# Altium schematic symbol library RD3399-20181013_Library.SchLib: 411 symbols (part 1 of 13)
Pins are listed as number, name and electrical type; pins without a type are passive.

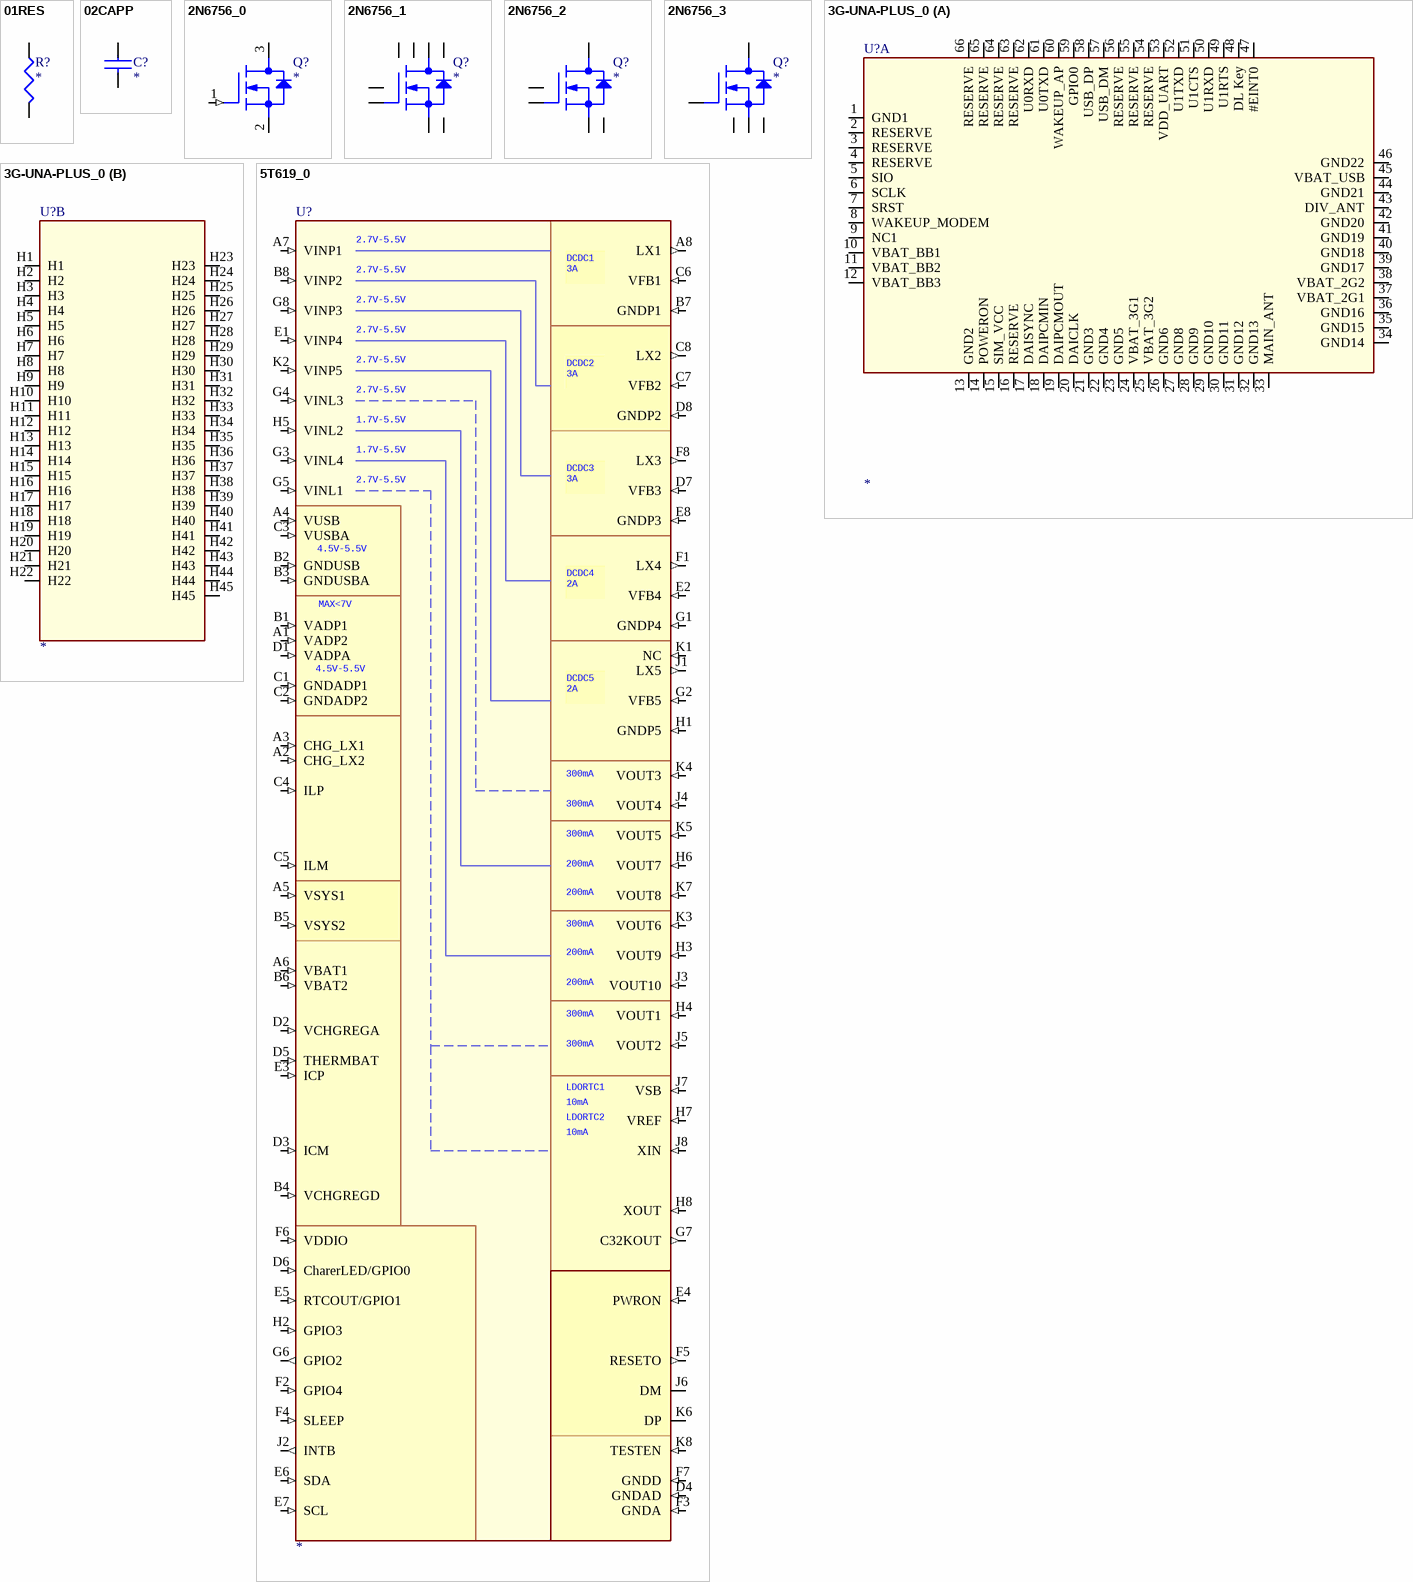
[diagram p0: symbols 01RES to 5T619_0]

## 01RES
designator R?
footprint R0603
pins: 1, 2

## 02CAPP
designator C?
footprint C0603
pins: 1, 2

## 2N6756_0
designator Q?
pins: 1 GATE (in), 2 SOURCE, 3 DRAIN

## 2N6756_1
designator Q?
pins: D1, D2, D3, D4, G1, G2, S1, S2

## 2N6756_2
designator Q?
pins: D1, G1, G2, S1, S2

## 2N6756_3
designator Q?
pins: D1, G1, G2, S1, S2

## 3G-UNA-PLUS_0
designator U?
part A pins: 1 GND1, 2 RESERVE, 3 RESERVE, 4 RESERVE, 5 SIO, 6 SCLK, 7 SRST, 8 WAKEUP_MODEM, 9 NC1, 10 VBAT_BB1, 11 VBAT_BB2, 12 VBAT_BB3, 13 GND2, 14 POWERON, 15 SIM_VCC, 16 RESERVE, 17 DAISYNC, 18 DAIPCMIN, 19 DAIPCMOUT, 20 DAICLK, 21 GND3, 22 GND4, 23 GND5, 24 VBAT_3G1, 25 VBAT_3G2, 26 GND6, 27 GND8, 28 GND9, 29 GND10, 30 GND11, 31 GND12, 32 GND13, 33 MAIN_ANT, 34 GND14, 35 GND15, 36 GND16, 37 VBAT_2G1, 38 VBAT_2G2, 39 GND17, 40 GND18, 41 GND19, 42 GND20, 43 DIV_ANT, 44 GND21, 45 VBAT_USB, 46 GND22, 47 #EINT0, 48 DL Key, 49 U1RTS, 50 U1RXD, 51 U1CTS, 52 U1TXD, 53 VDD_UART, 54 RESERVE, 55 RESERVE, 56 RESERVE, 57 USB_DM, 58 USB_DP, 59 GPIO0, 60 WAKEUP_AP, 61 U0TXD, 62 U0RXD, 63 RESERVE, 64 RESERVE, 65 RESERVE, 66 RESERVE
part B pins: H1, H2, H3, H4, H5, H6, H7, H8, H9, H10, H11, H12, H13, H14, H15, H16, H17, H18, H19, H20, H21, H22, H23, H24, H25, H26, H27, H28, H29, H30, H31, H32, H33, H34, H35, H36, H37, H38, H39, H40, H41, H42, H43, H44, H45

## 5T619_0
designator U?
pins: A1 VADP2 (in), A2 CHG_LX2 (in), A3 CHG_LX1 (in), A4 VUSB (in), A5 VSYS1 (in), A6 VBAT1 (in), A7 VINP1 (in), A8 LX1 (out), B1 VADP1 (in), B2 GNDUSB (in), B3 GNDUSBA (in), B4 VCHGREGD (in), B5 VSYS2 (in), B6 VBAT2 (in), B7 GNDP1 (in), B8 VINP2 (in), C1 GNDADP1 (in), C2 GNDADP2 (in), C3 VUSBA (in), C4 ILP (in), C5 ILM (in), C6 VFB1 (in), C7 VFB2 (in), C8 LX2 (out), D1 VADPA (in), D2 VCHGREGA (in), D3 ICM (in), D4 GNDAD (in), D5 THERMBAT (in), D6 CharerLED/GPIO0 (in), D7 VFB3 (in), D8 GNDP2 (in), E1 VINP4 (in), E2 VFB4 (in), E3 ICP (in), E4 PWRON (in), E5 RTCOUT/GPIO1 (in), E6 SDA (in), E7 SCL (in), E8 GNDP3 (in), F1 LX4 (out), F2 GPIO4 (in), F3 GNDA (in), F4 SLEEP (in), F5 RESETO (out), F6 VDDIO (in), F7 GNDD (in), F8 LX3 (out), G1 GNDP4 (in), G2 VFB5 (in), G3 VINL4 (in), G4 VINL3 (in), G5 VINL1 (in), G6 GPIO2 (out), G7 C32KOUT (out), G8 VINP3 (in), H1 GNDP5 (in), H2 GPIO3 (in), H3 VOUT9 (in), H4 VOUT1 (in), H5 VINL2 (in), H6 VOUT7 (in), H7 VREF (in), H8 XOUT (in), J1 LX5 (out), J2 INTB (out), J3 VOUT10 (in), J4 VOUT4 (in), J5 VOUT2 (in), J6 DM, J7 VSB (in), J8 XIN (in), K1 NC (in), K2 VINP5 (in), K3 VOUT6 (in), K4 VOUT3 (in), K5 VOUT5 (in), K6 DP, K7 VOUT8 (in), K8 TESTEN (in)
text: 2.7V-5.5V; DCDC1 / 3A; DCDC2 / 3A; 1.7V-5.5V; DCDC3 / 3A; 4.5V-5.5V; DCDC4 / 2A; MAX<7V; DCDC5 / 2A; 300mA; 200mA; LDORTC1; 10mA; LDORTC2

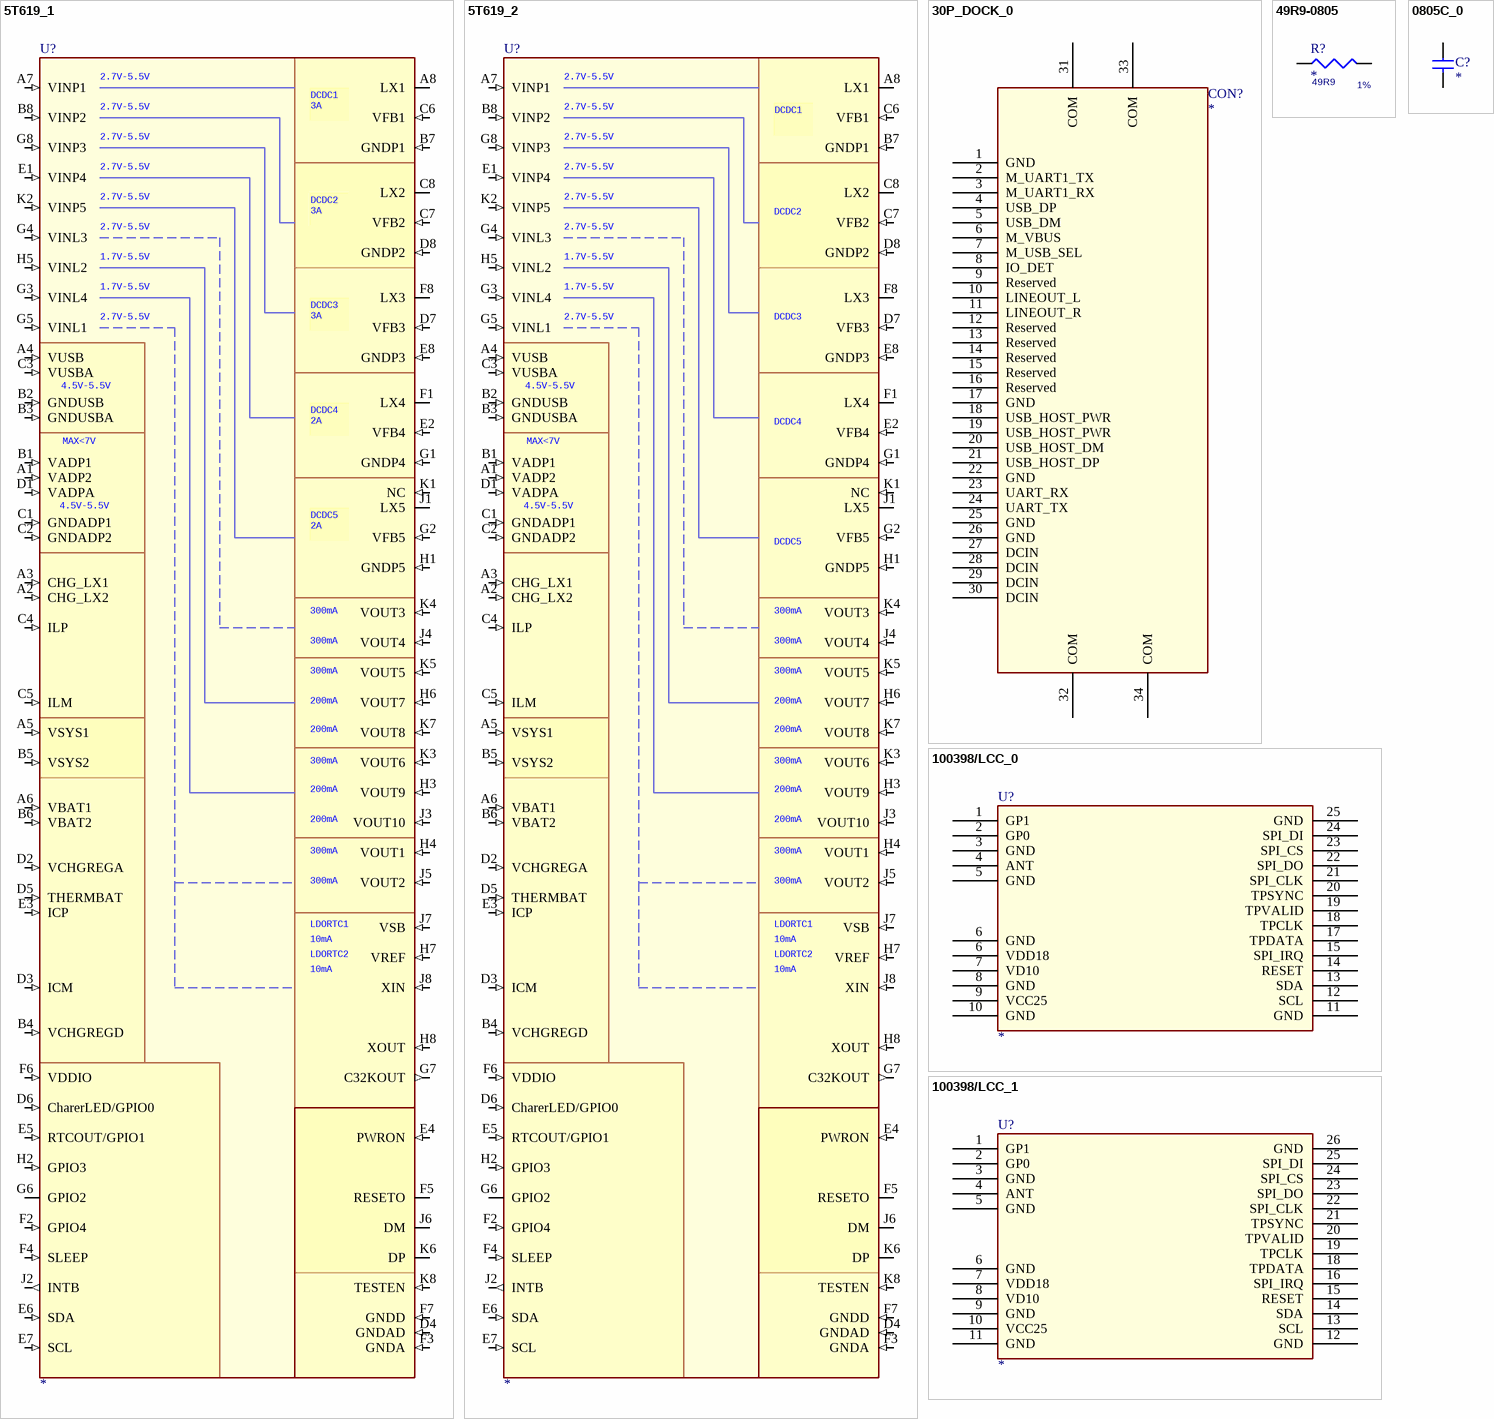
[diagram p1: symbols 5T619_1 to 100398/LCC_1]

## 5T619_1
designator U?
pins: A1 VADP2 (in), A2 CHG_LX2 (in), A3 CHG_LX1 (in), A4 VUSB (in), A5 VSYS1 (in), A6 VBAT1 (in), A7 VINP1 (in), A8 LX1, B1 VADP1 (in), B2 GNDUSB (in), B3 GNDUSBA (in), B4 VCHGREGD (in), B5 VSYS2 (in), B6 VBAT2 (in), B7 GNDP1 (in), B8 VINP2 (in), C1 GNDADP1 (in), C2 GNDADP2 (in), C3 VUSBA (in), C4 ILP (in), C5 ILM (in), C6 VFB1 (in), C7 VFB2 (in), C8 LX2, D1 VADPA (in), D2 VCHGREGA (in), D3 ICM (in), D4 GNDAD (in), D5 THERMBAT (in), D6 CharerLED/GPIO0 (in), D7 VFB3 (in), D8 GNDP2 (in), E1 VINP4 (in), E2 VFB4 (in), E3 ICP (in), E4 PWRON (in), E5 RTCOUT/GPIO1 (in), E6 SDA (in), E7 SCL (in), E8 GNDP3 (in), F1 LX4, F2 GPIO4 (in), F3 GNDA (in), F4 SLEEP (in), F5 RESETO, F6 VDDIO (in), F7 GNDD (in), F8 LX3, G1 GNDP4 (in), G2 VFB5 (in), G3 VINL4 (in), G4 VINL3 (in), G5 VINL1 (in), G6 GPIO2, G7 C32KOUT (out), G8 VINP3 (in), H1 GNDP5 (in), H2 GPIO3 (in), H3 VOUT9 (in), H4 VOUT1 (in), H5 VINL2 (in), H6 VOUT7 (in), H7 VREF (in), H8 XOUT (in), J1 LX5, J2 INTB (out), J3 VOUT10 (in), J4 VOUT4 (in), J5 VOUT2 (in), J6 DM, J7 VSB (in), J8 XIN (in), K1 NC (in), K2 VINP5 (in), K3 VOUT6 (in), K4 VOUT3 (in), K5 VOUT5 (in), K6 DP, K7 VOUT8 (in), K8 TESTEN (in)
text: 2.7V-5.5V; DCDC1 / 3A; DCDC2 / 3A; 1.7V-5.5V; DCDC3 / 3A; 4.5V-5.5V; DCDC4 / 2A; MAX<7V; DCDC5 / 2A; 300mA; 200mA; LDORTC1; 10mA; LDORTC2

## 5T619_2
designator U?
pins: A1 VADP2 (in), A2 CHG_LX2 (in), A3 CHG_LX1 (in), A4 VUSB (in), A5 VSYS1 (in), A6 VBAT1 (in), A7 VINP1 (in), A8 LX1, B1 VADP1 (in), B2 GNDUSB (in), B3 GNDUSBA (in), B4 VCHGREGD (in), B5 VSYS2 (in), B6 VBAT2 (in), B7 GNDP1 (in), B8 VINP2 (in), C1 GNDADP1 (in), C2 GNDADP2 (in), C3 VUSBA (in), C4 ILP (in), C5 ILM (in), C6 VFB1 (in), C7 VFB2 (in), C8 LX2, D1 VADPA (in), D2 VCHGREGA (in), D3 ICM (in), D4 GNDAD (in), D5 THERMBAT (in), D6 CharerLED/GPIO0 (in), D7 VFB3 (in), D8 GNDP2 (in), E1 VINP4 (in), E2 VFB4 (in), E3 ICP (in), E4 PWRON (in), E5 RTCOUT/GPIO1 (in), E6 SDA (in), E7 SCL (in), E8 GNDP3 (in), F1 LX4, F2 GPIO4 (in), F3 GNDA (in), F4 SLEEP (in), F5 RESETO, F6 VDDIO (in), F7 GNDD (in), F8 LX3, G1 GNDP4 (in), G2 VFB5 (in), G3 VINL4 (in), G4 VINL3 (in), G5 VINL1 (in), G6 GPIO2, G7 C32KOUT (out), G8 VINP3 (in), H1 GNDP5 (in), H2 GPIO3 (in), H3 VOUT9 (in), H4 VOUT1 (in), H5 VINL2 (in), H6 VOUT7 (in), H7 VREF (in), H8 XOUT (in), J1 LX5, J2 INTB (out), J3 VOUT10 (in), J4 VOUT4 (in), J5 VOUT2 (in), J6 DM, J7 VSB (in), J8 XIN (in), K1 NC (in), K2 VINP5 (in), K3 VOUT6 (in), K4 VOUT3 (in), K5 VOUT5 (in), K6 DP, K7 VOUT8 (in), K8 TESTEN (in)
text: 2.7V-5.5V; DCDC1 /; DCDC2; 1.7V-5.5V; DCDC3; 4.5V-5.5V; DCDC4; MAX<7V; DCDC5; 300mA; 200mA; LDORTC1; 10mA; LDORTC2

## 30P_DOCK_0
designator CON?
footprint 30P_DOCK_1
pins: 1 GND, 2 M_UART1_TX, 3 M_UART1_RX, 4 USB_DP, 5 USB_DM, 6 M_VBUS, 7 M_USB_SEL, 8 IO_DET, 9 Reserved, 10 LINEOUT_L, 11 LINEOUT_R, 12 Reserved, 13 Reserved, 14 Reserved, 15 Reserved, 16 Reserved, 17 GND, 18 USB_HOST_PWR, 19 USB_HOST_PWR, 20 USB_HOST_DM, 21 USB_HOST_DP, 22 GND, 23 UART_RX, 24 UART_TX, 25 GND, 26 GND, 27 DCIN, 28 DCIN, 29 DCIN, 30 DCIN, 31 COM, 32 COM, 33 COM, 34 COM

## 49R9-0805
designator R?  TOL: 1%  VAL: 49R9
PUI: 0.125; FAB: PHILIPS; BOI: 0805; DESIG: RC11; REF: 2322-734-64998; DEV: R0805
footprint R0805
pins: 1 R1, 2 R2

## 0805C_0
designator C?
footprint 0805C
pins: 1, 2

## 100398/LCC_0
designator U?
pins: 1 GP1, 2 GP0, 3 GND, 4 ANT, 5 GND, 6 VDD18, 6 GND, 7 VD10, 8 GND, 9 VCC25, 10 GND, 11 GND, 12 SCL, 13 SDA, 14 RESET, 15 SPI_IRQ, 17 TPDATA, 18 TPCLK, 19 TPVALID, 20 TPSYNC, 21 SPI_CLK, 22 SPI_DO, 23 SPI_CS, 24 SPI_DI, 25 GND

## 100398/LCC_1
designator U?
pins: 1 GP1, 2 GP0, 3 GND, 4 ANT, 5 GND, 6 GND, 7 VDD18, 8 VD10, 9 GND, 10 VCC25, 11 GND, 12 GND, 13 SCL, 14 SDA, 15 RESET, 16 SPI_IRQ, 18 TPDATA, 19 TPCLK, 20 TPVALID, 21 TPSYNC, 22 SPI_CLK, 23 SPI_DO, 24 SPI_CS, 25 SPI_DI, 26 GND

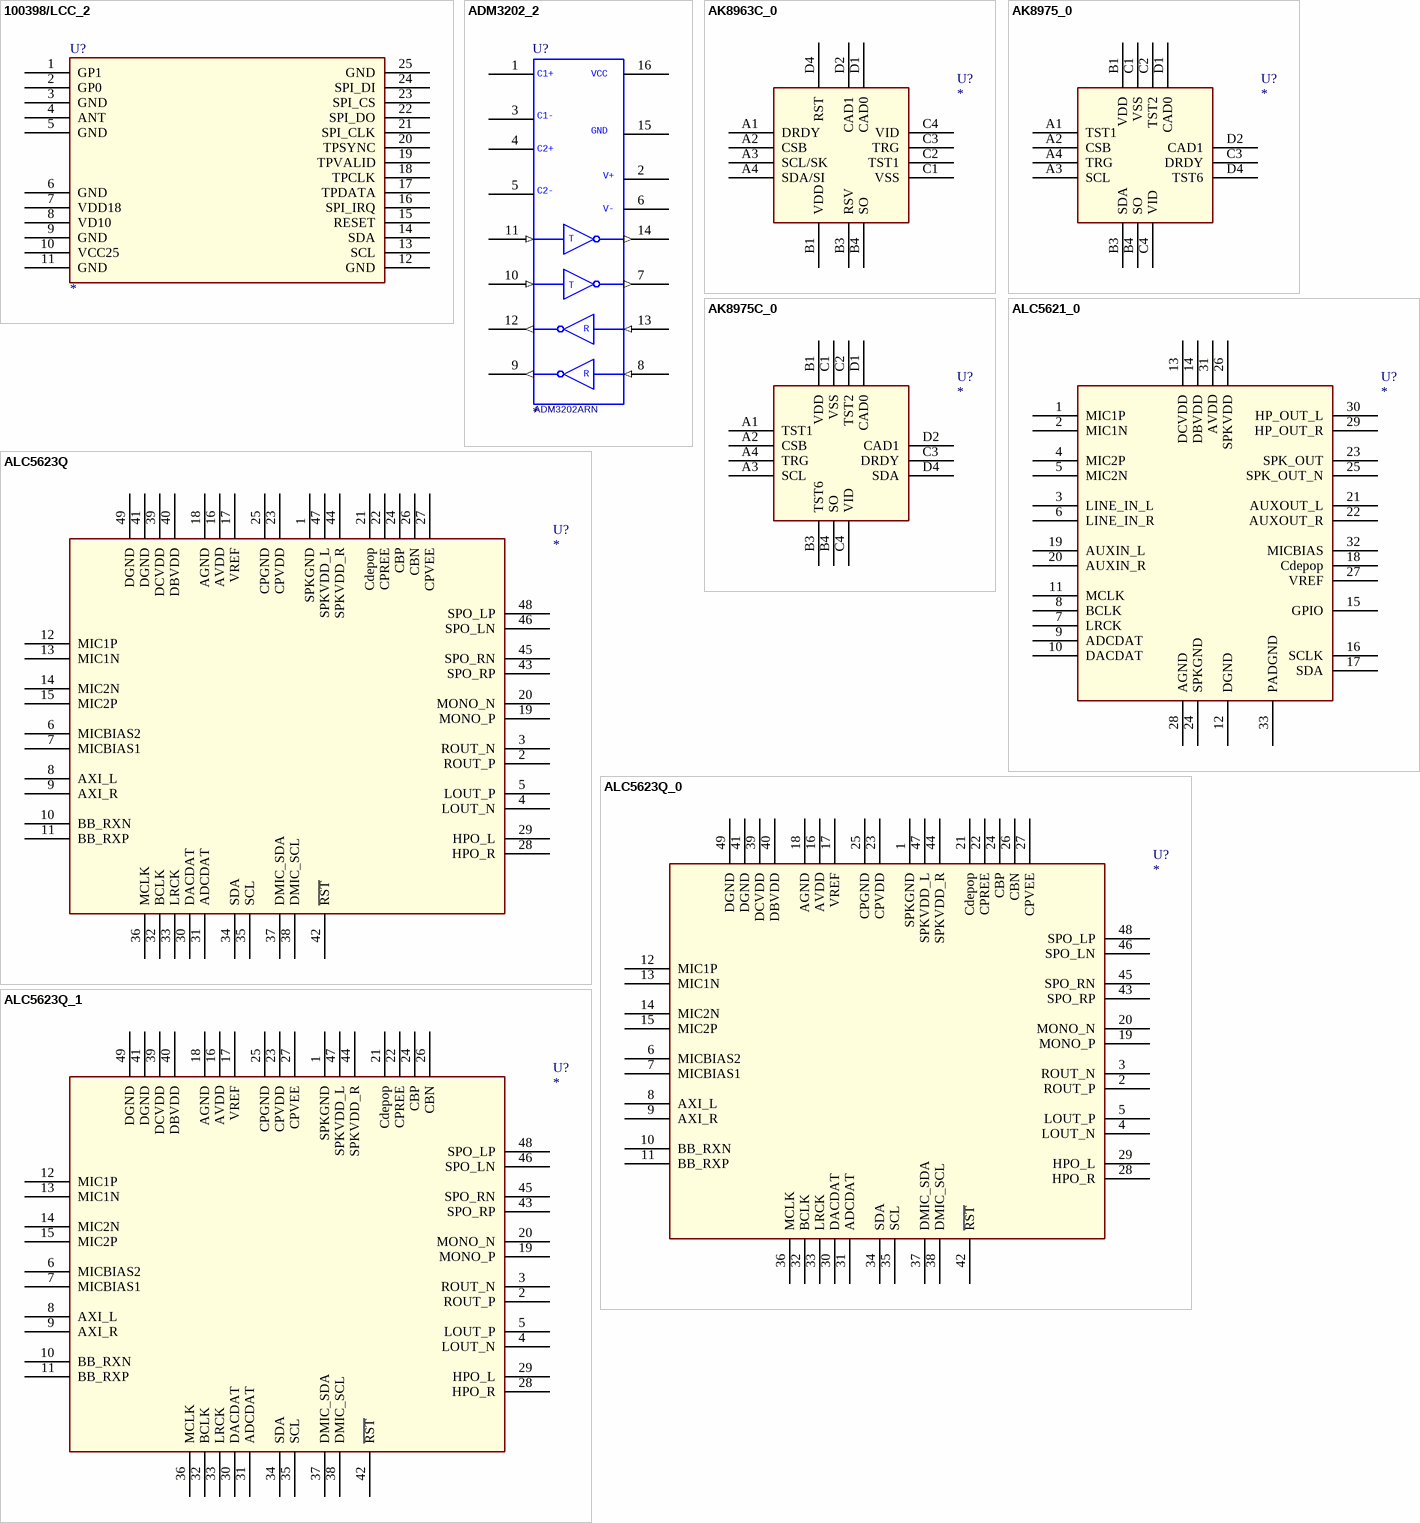
[diagram p2: symbols 100398/LCC_2 to ALC5623Q_1]

## 100398/LCC_2
designator U?
pins: 1 GP1, 2 GP0, 3 GND, 4 ANT, 5 GND, 6 GND, 7 VDD18, 8 VD10, 9 GND, 10 VCC25, 11 GND, 12 GND, 13 SCL, 14 SDA, 15 RESET, 16 SPI_IRQ, 17 TPDATA, 18 TPCLK, 19 TPVALID, 20 TPSYNC, 21 SPI_CLK, 22 SPI_DO, 23 SPI_CS, 24 SPI_DI, 25 GND

## ADM3202_2
designator U?  VAL: ADM3202ARN
FAB: AD; DEV: SO16; REF: 3; BOI: SO16
pins: 1, 2 V+, 3, 4, 5, 6 V-, 7 (out), 8 (in), 9 (out), 10 (in), 11 (in), 12 (out), 13 (in), 14 (out), 15 GND (power), 16 VCC (power)
text: C1+; C1-; C2+; C2-; T; R

## AK8963C_0
designator U?
footprint AK8975B
pins: A1 DRDY, A2 CSB, A3 SCL/SK, A4 SDA/SI, B1 VDD, B3 RSV, B4 SO, C1 VSS, C2 TST1, C3 TRG, C4 VID, D1 CAD0, D2 CAD1, D4 RST

## AK8975_0
designator U?
footprint QFN16-4X4
pins: A1 TST1, A2 CSB, A3 SCL, A4 TRG, B1 VDD, B3 SDA, B4 SO, C1 VSS, C2 TST2, C3 DRDY, C4 VID, D1 CAD0, D2 CAD1, D4 TST6

## AK8975C_0
designator U?
footprint AK8975B
pins: A1 TST1, A2 CSB, A3 SCL, A4 TRG, B1 VDD, B3 TST6, B4 SO, C1 VSS, C2 TST2, C3 DRDY, C4 VID, D1 CAD0, D2 CAD1, D4 SDA

## ALC5621_0
designator U?
footprint QFN32
pins: 1 MIC1P, 2 MIC1N, 3 LINE_IN_L, 4 MIC2P, 5 MIC2N, 6 LINE_IN_R, 7 LRCK, 8 BCLK, 9 ADCDAT, 10 DACDAT, 11 MCLK, 12 DGND, 13 DCVDD, 14 DBVDD, 15 GPIO, 16 SCLK, 17 SDA, 18 Cdepop, 19 AUXIN_L, 20 AUXIN_R, 21 AUXOUT_L, 22 AUXOUT_R, 23 SPK_OUT, 24 SPKGND, 25 SPK_OUT_N, 26 SPKVDD, 27 VREF, 28 AGND, 29 HP_OUT_R, 30 HP_OUT_L, 31 AVDD, 32 MICBIAS, 33 PADGND

## ALC5623Q
designator U?
footprint QFN48-6X6
pins: 1 SPKGND, 2 ROUT_P, 3 ROUT_N, 4 LOUT_N, 5 LOUT_P, 6 MICBIAS2, 7 MICBIAS1, 8 AXI_L, 9 AXI_R, 10 BB_RXN, 11 BB_RXP, 12 MIC1P, 13 MIC1N, 14 MIC2N, 15 MIC2P, 16 AVDD, 17 VREF, 18 AGND, 19 MONO_P, 20 MONO_N, 21 Cdepop, 22 CPREE, 23 CPVDD, 24 CBP, 25 CPGND, 26 CBN, 27 CPVEE, 28 HPO_R, 29 HPO_L, 30 DACDAT, 31 ADCDAT, 32 BCLK, 33 LRCK, 34 SDA, 35 SCL, 36 MCLK, 37 DMIC_SDA, 38 DMIC_SCL, 39 DCVDD, 40 DBVDD, 41 DGND, 42 ~{RST}, 43 SPO_RP, 44 SPKVDD_R, 45 SPO_RN, 46 SPO_LN, 47 SPKVDD_L, 48 SPO_LP, 49 DGND

## ALC5623Q_0
designator U?
footprint QFN48-6X6
pins: 1 SPKGND, 2 ROUT_P, 3 ROUT_N, 4 LOUT_N, 5 LOUT_P, 6 MICBIAS2, 7 MICBIAS1, 8 AXI_L, 9 AXI_R, 10 BB_RXN, 11 BB_RXP, 12 MIC1P, 13 MIC1N, 14 MIC2N, 15 MIC2P, 16 AVDD, 17 VREF, 18 AGND, 19 MONO_P, 20 MONO_N, 21 Cdepop, 22 CPREE, 23 CPVDD, 24 CBP, 25 CPGND, 26 CBN, 27 CPVEE, 28 HPO_R, 29 HPO_L, 30 DACDAT, 31 ADCDAT, 32 BCLK, 33 LRCK, 34 SDA, 35 SCL, 36 MCLK, 37 DMIC_SDA, 38 DMIC_SCL, 39 DCVDD, 40 DBVDD, 41 DGND, 42 ~{RST}, 43 SPO_RP, 44 SPKVDD_R, 45 SPO_RN, 46 SPO_LN, 47 SPKVDD_L, 48 SPO_LP, 49 DGND

## ALC5623Q_1
designator U?
footprint QFN48-6X6
pins: 1 SPKGND, 2 ROUT_P, 3 ROUT_N, 4 LOUT_N, 5 LOUT_P, 6 MICBIAS2, 7 MICBIAS1, 8 AXI_L, 9 AXI_R, 10 BB_RXN, 11 BB_RXP, 12 MIC1P, 13 MIC1N, 14 MIC2N, 15 MIC2P, 16 AVDD, 17 VREF, 18 AGND, 19 MONO_P, 20 MONO_N, 21 Cdepop, 22 CPREE, 23 CPVDD, 24 CBP, 25 CPGND, 26 CBN, 27 CPVEE, 28 HPO_R, 29 HPO_L, 30 DACDAT, 31 ADCDAT, 32 BCLK, 33 LRCK, 34 SDA, 35 SCL, 36 MCLK, 37 DMIC_SDA, 38 DMIC_SCL, 39 DCVDD, 40 DBVDD, 41 DGND, 42 ~{RST}, 43 SPO_RP, 44 SPKVDD_R, 45 SPO_RN, 46 SPO_LN, 47 SPKVDD_L, 48 SPO_LP, 49 DGND

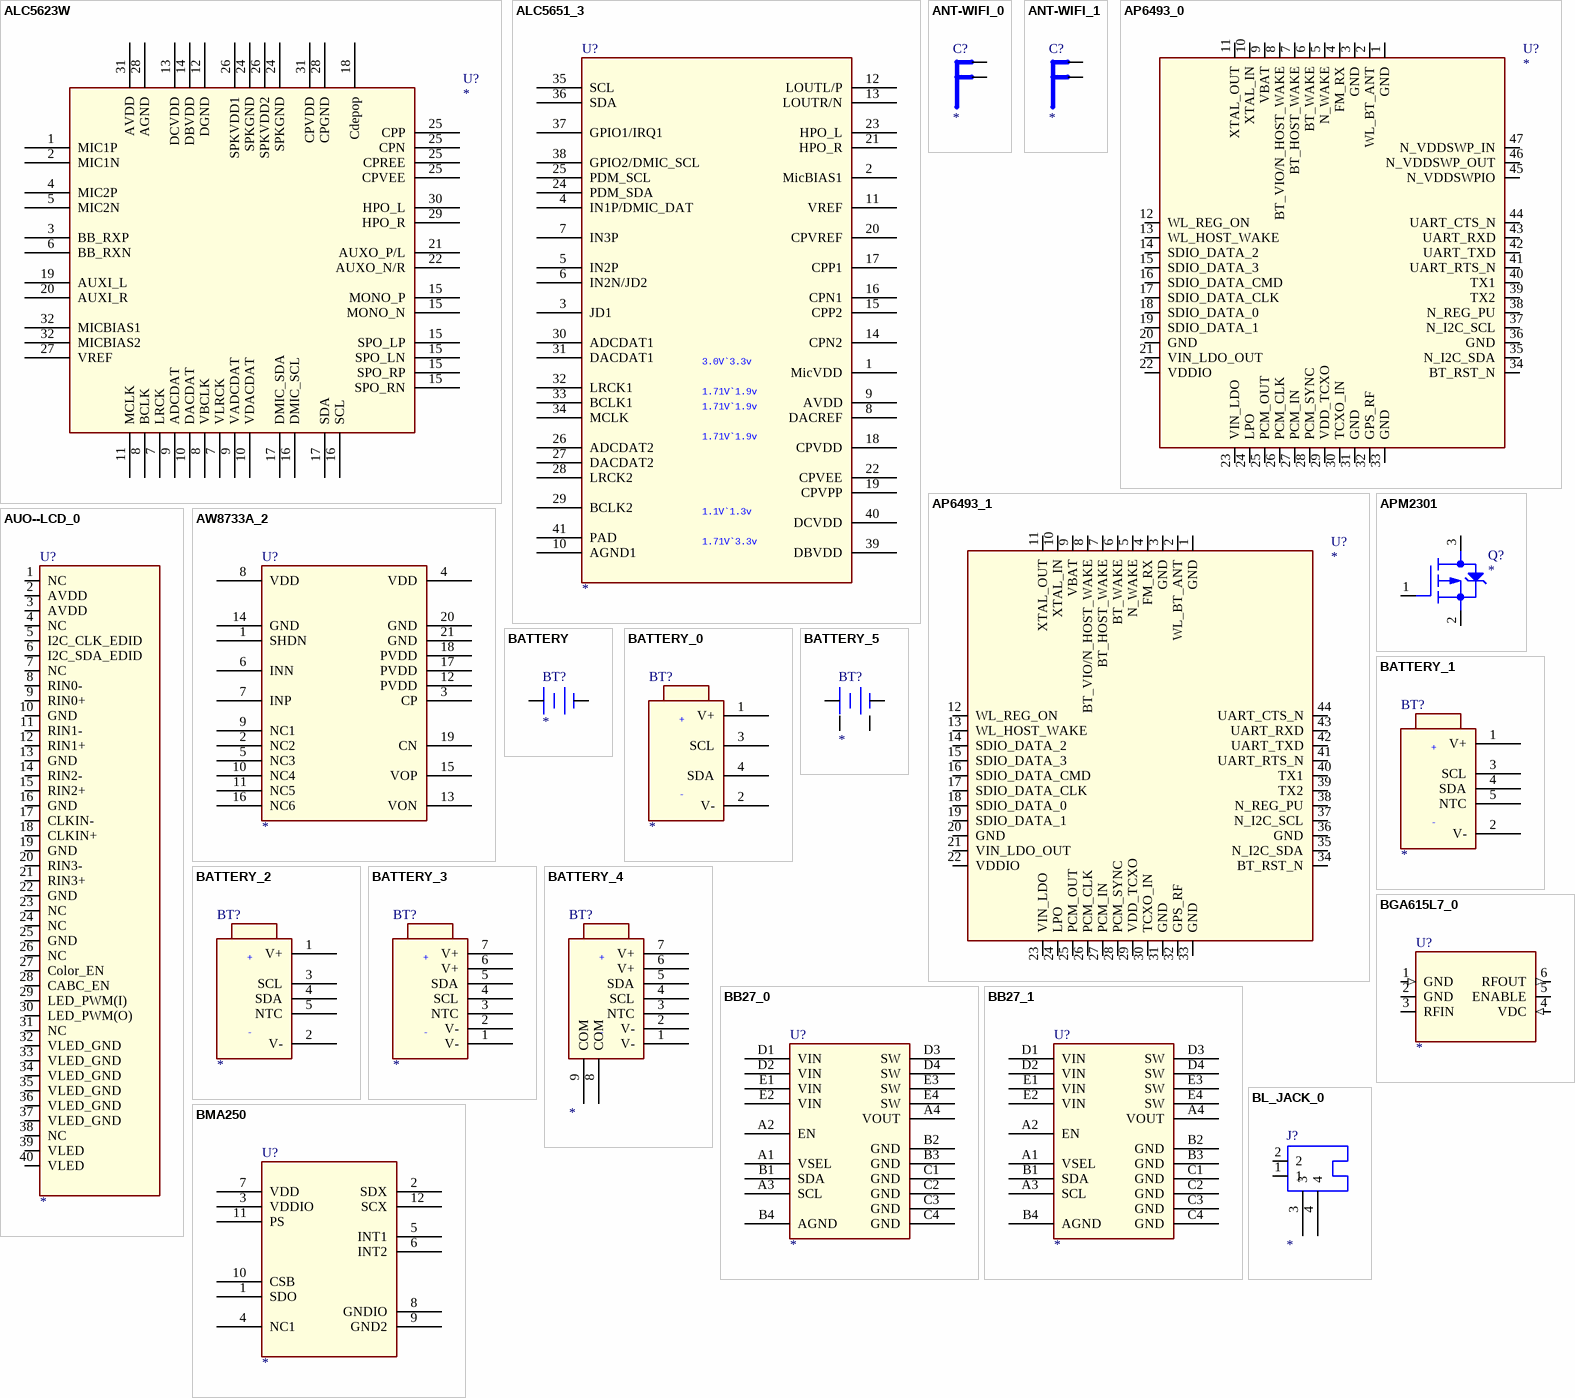
[diagram p3: symbols ALC5623W to BMA250]

## ALC5623W
designator U?
footprint GBA49
pins: 1 MIC1P, 2 MIC1N, 3 BB_RXP, 4 MIC2P, 5 MIC2N, 6 BB_RXN, 7 LRCK, 7 VLRCK, 8 BCLK, 8 VBCLK, 9 ADCDAT, 9 VADCDAT, 10 DACDAT, 10 VDACDAT, 11 MCLK, 12 DGND, 13 DCVDD, 14 DBVDD, 15 SPO_RN, 15 SPO_RP, 15 SPO_LP, 15 SPO_LN, 15 MONO_P, 15 MONO_N, 16 SCL, 16 DMIC_SCL, 17 SDA, 17 DMIC_SDA, 18 Cdepop, 19 AUXI_L, 20 AUXI_R, 21 AUXO_P/L, 22 AUXO_N/R, 24 SPKGND, 24 SPKGND, 25 CPVEE, 25 CPREE, 25 CPN, 25 CPP, 26 SPKVDD1, 26 SPKVDD2, 27 VREF, 28 AGND, 28 CPGND, 29 HPO_R, 30 HPO_L, 31 AVDD, 31 CPVDD, 32 MICBIAS1, 32 MICBIAS2

## ALC5651_3
designator U?
footprint QFN-5RX5RX1R
pins: 1 MicVDD, 2 MicBIAS1, 3 JD1, 4 IN1P/DMIC_DAT, 5 IN2P, 6 IN2N/JD2, 7 IN3P, 8 DACREF, 9 AVDD, 10 AGND1, 11 VREF, 12 LOUTL/P, 13 LOUTR/N, 14 CPN2, 15 CPP2, 16 CPN1, 17 CPP1, 18 CPVDD, 19 CPVPP, 20 CPVREF, 21 HPO_R, 22 CPVEE, 23 HPO_L, 24 PDM_SDA, 25 PDM_SCL, 26 ADCDAT2, 27 DACDAT2, 28 LRCK2, 29 BCLK2, 30 ADCDAT1, 31 DACDAT1, 32 LRCK1, 33 BCLK1, 34 MCLK, 35 SCL, 36 SDA, 37 GPIO1/IRQ1, 38 GPIO2/DMIC_SCL, 39 DBVDD, 40 DCVDD, 41 PAD
text: 3.0V`3.3v; 1.71V`1.9v; 1.1V`1.3v; 1.71V`3.3v

## ANT-WIFI_0
designator C?
pins: 1, 2

## ANT-WIFI_1
designator C?
pins: 1, 2

## AP6493_0
designator U?
pins: 1 GND (power), 2 WL_BT_ANT, 3 GND (power), 4 FM_RX, 5 N_WAKE, 6 BT_WAKE, 7 BT_HOST_WAKE, 8 BT_VIO/N_HOST_WAKE, 9 VBAT, 10 XTAL_IN, 11 XTAL_OUT, 12 WL_REG_ON, 13 WL_HOST_WAKE, 14 SDIO_DATA_2, 15 SDIO_DATA_3, 16 SDIO_DATA_CMD, 17 SDIO_DATA_CLK, 18 SDIO_DATA_0, 19 SDIO_DATA_1, 20 GND (power), 21 VIN_LDO_OUT, 22 VDDIO, 23 VIN_LDO, 24 LPO, 25 PCM_OUT, 26 PCM_CLK, 27 PCM_IN, 28 PCM_SYNC, 29 VDD_TCXO, 30 TCXO_IN, 31 GND (power), 32 GPS_RF, 33 GND (power), 34 BT_RST_N, 35 N_I2C_SDA, 36 GND (power), 37 N_I2C_SCL, 38 N_REG_PU, 39 TX2, 40 TX1, 41 UART_RTS_N, 42 UART_TXD, 43 UART_RXD, 44 UART_CTS_N, 45 N_VDDSWPIO, 46 N_VDDSWP_OUT, 47 N_VDDSWP_IN

## AP6493_1
designator U?
pins: 1 GND (power), 2 WL_BT_ANT, 3 GND (power), 4 FM_RX, 5 N_WAKE, 6 BT_WAKE, 7 BT_HOST_WAKE, 8 BT_VIO/N_HOST_WAKE, 9 VBAT, 10 XTAL_IN, 11 XTAL_OUT, 12 WL_REG_ON, 13 WL_HOST_WAKE, 14 SDIO_DATA_2, 15 SDIO_DATA_3, 16 SDIO_DATA_CMD, 17 SDIO_DATA_CLK, 18 SDIO_DATA_0, 19 SDIO_DATA_1, 20 GND (power), 21 VIN_LDO_OUT, 22 VDDIO, 23 VIN_LDO, 24 LPO, 25 PCM_OUT, 26 PCM_CLK, 27 PCM_IN, 28 PCM_SYNC, 29 VDD_TCXO, 30 TCXO_IN, 31 GND (power), 32 GPS_RF, 33 GND (power), 34 BT_RST_N, 35 N_I2C_SDA, 36 GND (power), 37 N_I2C_SCL, 38 N_REG_PU, 39 TX2, 40 TX1, 41 UART_RTS_N, 42 UART_TXD, 43 UART_RXD, 44 UART_CTS_N

## APM2301
designator Q?
pins: 1 G, 2 S, 3 D

## AUO--LCD_0
designator U?
pins: 1 NC, 2 AVDD, 3 AVDD, 4 NC, 5 I2C_CLK_EDID, 6 I2C_SDA_EDID, 7 NC, 8 RIN0-, 9 RIN0+, 10 GND, 11 RIN1-, 12 RIN1+, 13 GND, 14 RIN2-, 15 RIN2+, 16 GND, 17 CLKIN-, 18 CLKIN+, 19 GND, 20 RIN3-, 21 RIN3+, 22 GND, 23 NC, 24 NC, 25 GND, 26 NC, 27 Color_EN, 28 CABC_EN, 29 LED_PWM(I), 30 LED_PWM(O), 31 NC, 32 VLED_GND, 33 VLED_GND, 34 VLED_GND, 35 VLED_GND, 36 VLED_GND, 37 VLED_GND, 38 NC, 39 VLED, 40 VLED

## AW8733A_2
designator U?
pins: 1 SHDN, 2 NC2, 3 CP, 4 VDD (power), 5 NC3, 6 INN, 7 INP, 8 VDD (power), 9 NC1, 10 NC4, 11 NC5, 12 PVDD (power), 13 VON, 14 GND (power), 15 VOP, 16 NC6, 17 PVDD (power), 18 PVDD (power), 19 CN, 20 GND (power), 21 GND (power)

## BATTERY
designator BT?
pins: 1 +, 2 -

## BATTERY_0
designator BT?
pins: 1 V+, 2 V-, 3 SCL, 4 SDA
text: +; -

## BATTERY_1
designator BT?
pins: 1 V+, 2 V-, 3 SCL, 4 SDA, 5 NTC
text: +; -

## BATTERY_2
designator BT?
pins: 1 V+, 2 V-, 3 SCL, 4 SDA, 5 NTC
text: +; -

## BATTERY_3
designator BT?
pins: 1 V-, 2 V-, 3 NTC, 4 SCL, 5 SDA, 6 V+, 7 V+
text: +; -

## BATTERY_4
designator BT?
pins: 1 V- (power), 2 V- (power), 3 NTC, 4 SCL, 5 SDA, 6 V+ (power), 7 V+ (power), 8 COM, 9 COM
text: +; -

## BATTERY_5
designator BT?
pins: 1 +, 2 -, 3, 4

## BB27_0
designator U?
footprint WLCSP-20
pins: A1 VSEL, A2 EN, A3 SCL, A4 VOUT, B1 SDA, B2 GND (power), B3 GND (power), B4 AGND, C1 GND (power), C2 GND (power), C3 GND (power), C4 GND (power), D1 VIN (power), D2 VIN (power), D3 SW (power), D4 SW (power), E1 VIN (power), E2 VIN (power), E3 SW (power), E4 SW (power)

## BB27_1
designator U?
footprint WLCSP-20
pins: A1 VSEL, A2 EN, A3 SCL, A4 VOUT, B1 SDA, B2 GND (power), B3 GND (power), B4 AGND, C1 GND (power), C2 GND (power), C3 GND (power), C4 GND (power), D1 VIN (power), D2 VIN (power), D3 SW (power), D4 SW (power), E1 VIN (power), E2 VIN (power), E3 SW (power), E4 SW (power)

## BGA615L7_0
designator U?
footprint P-TSLP-7-1
pins: 1 GND (in), 2 GND, 3 RFIN (power), 4 VDC (in), 5 ENABLE (power), 6 RFOUT (out)

## BL_JACK_0
designator J?
pins: 1, 2, 3, 4

## BMA250
designator U?
footprint 12LGA
pins: 1 SDO, 2 SDX, 3 VDDIO, 4 NC1, 5 INT1, 6 INT2, 7 VDD, 8 GNDIO, 9 GND2, 10 CSB, 11 PS, 12 SCX

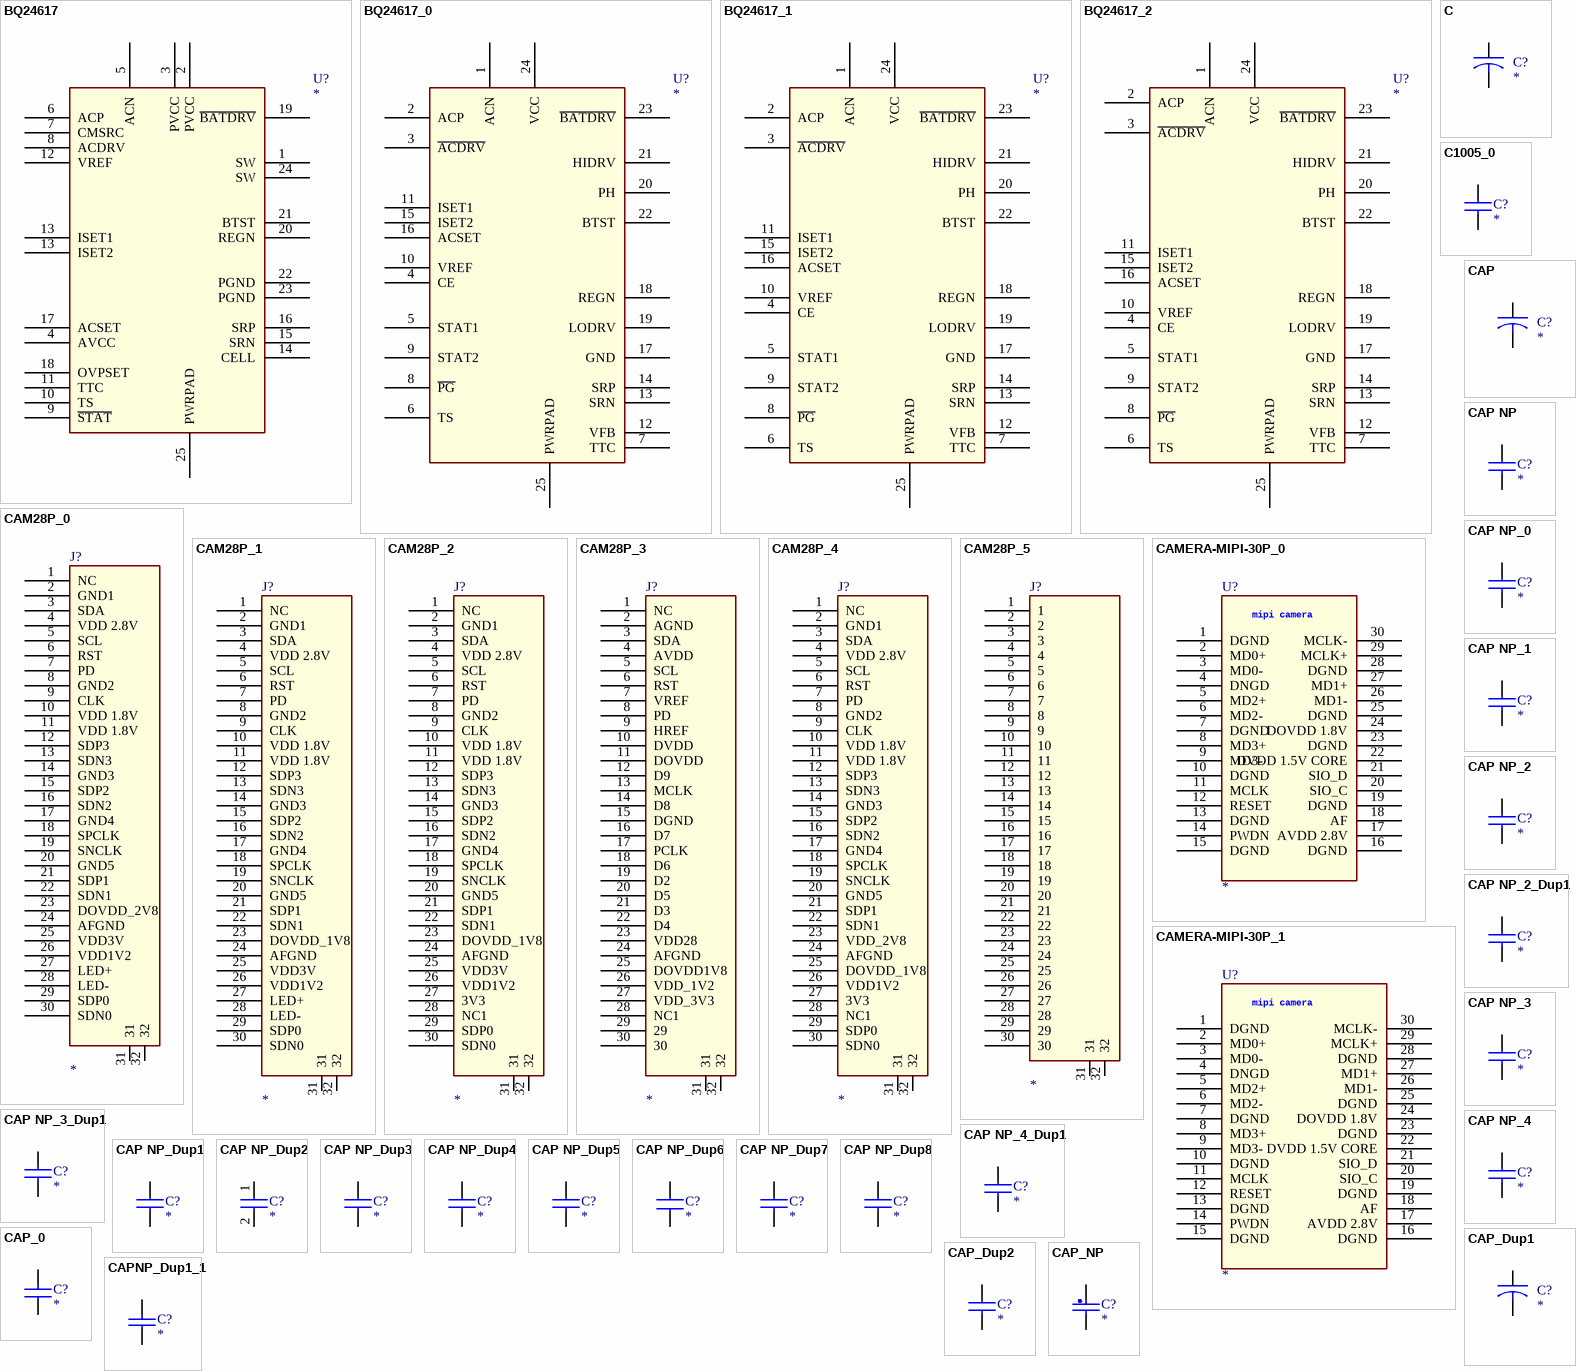
[diagram p4: symbols BQ24617 to CAPNP_Dup1_1]

## BQ24617
designator U?
footprint QFN24
pins: 1 SW, 2 PVCC, 3 PVCC, 4 AVCC, 5 ACN, 6 ACP, 7 CMSRC, 8 ACDRV, 9 ~{STAT}, 10 TS, 11 TTC, 12 VREF, 13 ISET1, 13 ISET2, 14 CELL, 15 SRN, 16 SRP, 17 ACSET, 18 OVPSET, 19 ~{BATDRV}, 20 REGN, 21 BTST, 22 PGND, 23 PGND, 24 SW, 25 PWRPAD

## BQ24617_0
designator U?
footprint QFN24
pins: 1 ACN, 2 ACP, 3 ~{ACDRV}, 4 CE, 5 STAT1, 6 TS, 7 TTC, 8 ~{PG}, 9 STAT2, 10 VREF, 11 ISET1, 12 VFB, 13 SRN, 14 SRP, 15 ISET2, 16 ACSET, 17 GND, 18 REGN, 19 LODRV, 20 PH, 21 HIDRV, 22 BTST, 23 ~{BATDRV}, 24 VCC, 25 PWRPAD

## BQ24617_1
designator U?
footprint QFN24
pins: 1 ACN, 2 ACP, 3 ~{ACDRV}, 4 CE, 5 STAT1, 6 TS, 7 TTC, 8 ~{PG}, 9 STAT2, 10 VREF, 11 ISET1, 12 VFB, 13 SRN, 14 SRP, 15 ISET2, 16 ACSET, 17 GND, 18 REGN, 19 LODRV, 20 PH, 21 HIDRV, 22 BTST, 23 ~{BATDRV}, 24 VCC, 25 PWRPAD

## BQ24617_2
designator U?
footprint QFN24
pins: 1 ACN, 2 ACP, 3 ~{ACDRV}, 4 CE, 5 STAT1, 6 TS, 7 TTC, 8 ~{PG}, 9 STAT2, 10 VREF, 11 ISET1, 12 VFB, 13 SRN, 14 SRP, 15 ISET2, 16 ACSET, 17 GND, 18 REGN, 19 LODRV, 20 PH, 21 HIDRV, 22 BTST, 23 ~{BATDRV}, 24 VCC, 25 PWRPAD

## C
designator C?
pins: 1, 2

## C1005_0
designator C?
footprint C1005
pins: 1, 2

## CAM28P_0
designator J?
footprint FPC28_MICRO
pins: 1 NC, 2 GND1, 3 SDA, 4 VDD 2.8V (power), 5 SCL, 6 RST, 7 PD, 8 GND2, 9 CLK, 10 VDD 1.8V (power), 11 VDD 1.8V (power), 12 SDP3, 13 SDN3, 14 GND3, 15 SDP2, 16 SDN2, 17 GND4, 18 SPCLK, 19 SNCLK, 20 GND5, 21 SDP1, 22 SDN1, 23 DOVDD_2V8 (power), 24 AFGND, 25 VDD3V, 26 VDD1V2, 27 LED+, 28 LED-, 29 SDP0, 30 SDN0, 31, 32

## CAM28P_1
designator J?
footprint FPC28_MICRO
pins: 1 NC, 2 GND1, 3 SDA, 4 VDD 2.8V (power), 5 SCL, 6 RST, 7 PD, 8 GND2, 9 CLK, 10 VDD 1.8V (power), 11 VDD 1.8V (power), 12 SDP3, 13 SDN3, 14 GND3, 15 SDP2, 16 SDN2, 17 GND4, 18 SPCLK, 19 SNCLK, 20 GND5, 21 SDP1, 22 SDN1, 23 DOVDD_1V8 (power), 24 AFGND, 25 VDD3V, 26 VDD1V2, 27 LED+, 28 LED-, 29 SDP0, 30 SDN0, 31, 32

## CAM28P_2
designator J?
footprint FPC28_MICRO
pins: 1 NC, 2 GND1, 3 SDA, 4 VDD 2.8V (power), 5 SCL, 6 RST, 7 PD, 8 GND2, 9 CLK, 10 VDD 1.8V (power), 11 VDD 1.8V (power), 12 SDP3, 13 SDN3, 14 GND3, 15 SDP2, 16 SDN2, 17 GND4, 18 SPCLK, 19 SNCLK, 20 GND5, 21 SDP1, 22 SDN1, 23 DOVDD_1V8 (power), 24 AFGND, 25 VDD3V, 26 VDD1V2, 27 3V3, 28 NC1, 29 SDP0, 30 SDN0, 31, 32

## CAM28P_3
designator J?
footprint FPC28_MICRO
pins: 1 NC, 2 AGND, 3 SDA, 4 AVDD, 5 SCL, 6 RST, 7 VREF, 8 PD, 9 HREF, 10 DVDD, 11 DOVDD, 12 D9, 13 MCLK, 14 D8, 15 DGND, 16 D7, 17 PCLK, 18 D6, 19 D2, 20 D5, 21 D3, 22 D4, 23 VDD28, 24 AFGND, 25 DOVDD1V8, 26 VDD_1V2, 27 VDD_3V3, 28 NC1, 29, 30, 31, 32

## CAM28P_4
designator J?
footprint FPC28_MICRO
pins: 1 NC, 2 GND1, 3 SDA, 4 VDD 2.8V (power), 5 SCL, 6 RST, 7 PD, 8 GND2, 9 CLK, 10 VDD 1.8V (power), 11 VDD 1.8V (power), 12 SDP3, 13 SDN3, 14 GND3, 15 SDP2, 16 SDN2, 17 GND4, 18 SPCLK, 19 SNCLK, 20 GND5, 21 SDP1, 22 SDN1, 23 VDD_2V8 (power), 24 AFGND, 25 DOVDD_1V8, 26 VDD1V2, 27 3V3, 28 NC1, 29 SDP0, 30 SDN0, 31, 32

## CAM28P_5
designator J?
footprint FPC28_MICRO
pins: 1, 2, 3, 4, 5, 6, 7, 8, 9, 10, 11, 12, 13, 14, 15, 16, 17, 18, 19, 20, 21, 22, 23, 24, 25, 26, 27, 28, 29, 30, 31, 32

## CAMERA-MIPI-30P_0
designator U?
pins: 1 DGND, 2 MD0+, 3 MD0-, 4 DNGD, 5 MD2+, 6 MD2-, 7 DGND, 8 MD3+, 9 MD3-, 10 DGND, 11 MCLK, 12 RESET, 13 DGND, 14 PWDN, 15 DGND, 16 DGND, 17 AVDD 2.8V, 18 AF, 19 DGND, 20 SIO_C, 21 SIO_D, 22 DVDD 1.5V CORE, 23 DGND, 24 DOVDD 1.8V, 25 DGND, 26 MD1-, 27 MD1+, 28 DGND, 29 MCLK+, 30 MCLK-
text: mipi camera

## CAMERA-MIPI-30P_1
designator U?
pins: 1 DGND, 2 MD0+, 3 MD0-, 4 DNGD, 5 MD2+, 6 MD2-, 7 DGND, 8 MD3+, 9 MD3-, 10 DGND, 11 MCLK, 12 RESET, 13 DGND, 14 PWDN, 15 DGND, 16 DGND, 17 AVDD 2.8V, 18 AF, 19 DGND, 20 SIO_C, 21 SIO_D, 22 DVDD 1.5V CORE, 23 DGND, 24 DOVDD 1.8V, 25 DGND, 26 MD1-, 27 MD1+, 28 DGND, 29 MCLK+, 30 MCLK-
text: mipi camera

## CAP
designator C?
pins: 1, 2

## CAP NP
designator C?
footprint C0402
pins: 1, 2

## CAP NP_0
designator C?
pins: 1, 2

## CAP NP_1
designator C?
pins: 1, 2

## CAP NP_2
designator C?
pins: 1, 2

## CAP NP_2_Dup1
designator C?
pins: 1, 2

## CAP NP_3
designator C?
pins: 1, 2

## CAP NP_3_Dup1
designator C?
pins: 1, 2

## CAP NP_4
designator C?
pins: 1, 2

## CAP NP_4_Dup1
designator C?
pins: 1, 2

## CAP NP_Dup1
designator C?
pins: 1, 2

## CAP NP_Dup2
designator C?
pins: 1, 2

## CAP NP_Dup3
designator C?
pins: 1, 2

## CAP NP_Dup4
designator C?
footprint C0603
pins: 1, 2

## CAP NP_Dup5
designator C?
pins: 1, 2

## CAP NP_Dup6
designator C?
footprint C0603
pins: 1, 2

## CAP NP_Dup7
designator C?
pins: 1, 2

## CAP NP_Dup8
designator C?
pins: 1, 2

## CAP_0
designator C?
footprint C0603
pins: 1, 2

## CAP_Dup1
designator C?
pins: 1, 2

## CAP_Dup2
designator C?
footprint C-0603
pins: 1, 2

## CAP_NP
designator C?
CLASS: DISCRETE
pins: 1, 2

## CAPNP_Dup1_1
designator C?
pins: 1, 2

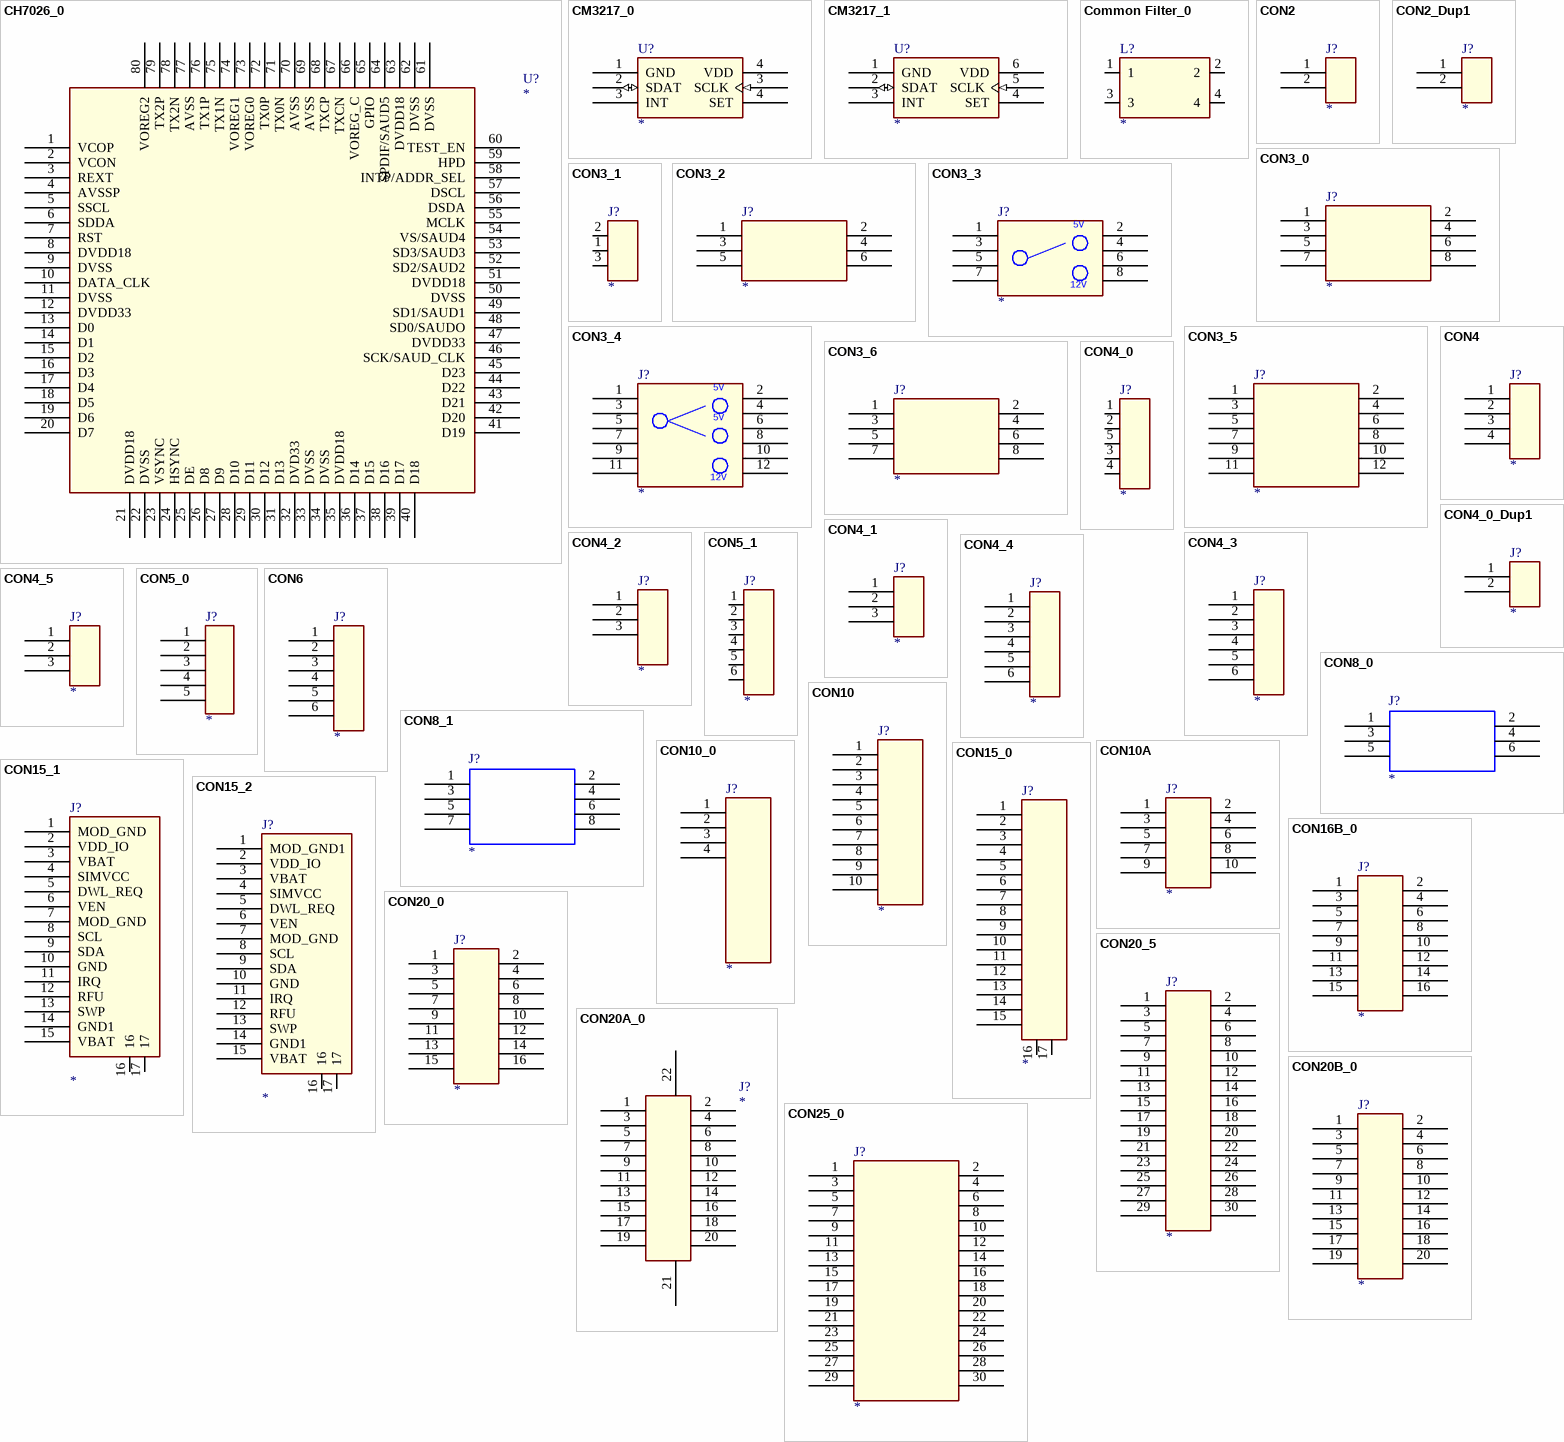
[diagram p5: symbols CH7026_0 to CON25_0]

## CH7026_0
designator U?
footprint LQFP80
pins: 1 VCOP, 2 VCON, 3 REXT, 4 AVSSP, 5 SSCL, 6 SDDA, 7 RST, 8 DVDD18 (power), 9 DVSS (power), 10 DATA_CLK, 11 DVSS (power), 12 DVDD33 (power), 13 D0, 14 D1, 15 D2, 16 D3, 17 D4, 18 D5, 19 D6, 20 D7, 21 DVDD18 (power), 22 DVSS (power), 23 VSYNC, 24 HSYNC, 25 DE, 26 D8, 27 D9, 28 D10, 29 D11, 30 D12, 31 D13, 32 DVD33 (power), 33 DVSS (power), 34 DVSS (power), 35 DVDD18 (power), 36 D14, 37 D15, 38 D16, 39 D17, 40 D18, 41 D19, 42 D20, 43 D21, 44 D22, 45 D23, 46 SCK/SAUD_CLK, 47 DVDD33 (power), 48 SD0/SAUDO, 49 SD1/SAUD1, 50 DVSS (power), 51 DVDD18 (power), 52 SD2/SAUD2, 53 SD3/SAUD3, 54 VS/SAUD4, 55 MCLK, 56 DSDA, 57 DSCL, 58 INTP/ADDR_SEL, 59 HPD, 60 TEST_EN, 61 DVSS (power), 62 DVSS (power), 63 DVDD18 (power), 64 SPDIF/SAUD5, 65 GPIO, 66 VOREG_C, 67 TXCN, 68 TXCP, 69 AVSS (power), 70 AVSS (power), 71 TX0N, 72 TX0P, 73 VOREG0, 74 VOREG1, 75 TX1N, 76 TX1P, 77 AVSS (power), 78 TX2N, 79 TX2P, 80 VOREG2

## CM3217_0
designator U?
footprint CM3217
pins: 1 GND (power), 2 SDAT (io), 3 SCLK (in), 3 INT, 4 SET, 4 VDD (power)

## CM3217_1
designator U?
footprint CM3217
pins: 1 GND (power), 2 SDAT (io), 3 INT, 4 SET, 5 SCLK (in), 6 VDD (power)

## Common Filter_0
designator L?
pins: 1, 2, 3, 4

## CON2
designator J?
pins: 1, 2

## CON2_Dup1
designator J?
pins: 1, 2

## CON3_0
designator J?
pins: 1, 2, 3, 4, 5, 6, 7, 8

## CON3_1
designator J?
pins: 1, 2, 3

## CON3_2
designator J?
pins: 1, 2, 3, 4, 5, 6

## CON3_3
designator J?
pins: 1, 2, 3, 4, 5, 6, 7, 8
text: 5V; 12V

## CON3_4
designator J?
pins: 1, 2, 3, 4, 5, 6, 7, 8, 9, 10, 11, 12
text: 5V; 12V

## CON3_5
designator J?
pins: 1, 2, 3, 4, 5, 6, 7, 8, 9, 10, 11, 12

## CON3_6
designator J?
pins: 1, 2, 3, 4, 5, 6, 7, 8

## CON4
designator J?
pins: 1, 2, 3, 4

## CON4_0
designator J?
pins: 1, 2, 3, 4, 5

## CON4_0_Dup1
designator J?
pins: 1, 2

## CON4_1
designator J?
pins: 1, 2, 3

## CON4_2
designator J?
pins: 1, 2, 3

## CON4_3
designator J?
pins: 1, 2, 3, 4, 5 (hiz), 6 (hiz)

## CON4_4
designator J?
pins: 1, 2, 3, 4, 5 (hiz), 6

## CON4_5
designator J?
pins: 1, 2, 3

## CON5_0
designator J?
pins: 1, 2, 3, 4, 5

## CON5_1
designator J?
pins: 1, 2, 3, 4, 5, 6

## CON6
designator J?
pins: 1, 2, 3, 4, 5, 6

## CON8_0
designator J?
pins: 1, 2, 3, 4, 5, 6

## CON8_1
designator J?
pins: 1, 2, 3, 4, 5, 6, 7, 8

## CON10
designator J?
pins: 1, 2, 3, 4, 5, 6, 7, 8, 9, 10

## CON10_0
designator J?
pins: 1, 2, 3, 4

## CON10A
designator J?
pins: 1, 2, 3, 4, 5, 6, 7, 8, 9, 10

## CON15_0
designator J?
pins: 1, 2, 3, 4, 5, 6, 7, 8, 9, 10, 11, 12, 13, 14, 15, 16, 17

## CON15_1
designator J?
pins: 1 MOD_GND, 2 VDD_IO, 3 VBAT, 4 SIMVCC, 5 DWL_REQ, 6 VEN, 7 MOD_GND, 8 SCL, 9 SDA, 10 GND, 11 IRQ, 12 RFU, 13 SWP, 14 GND1, 15 VBAT, 16, 17

## CON15_2
designator J?
pins: 1 MOD_GND1, 2 VDD_IO, 3 VBAT (power), 4 SIMVCC, 5 DWL_REQ, 6 VEN, 7 MOD_GND, 8 SCL, 9 SDA, 10 GND, 11 IRQ, 12 RFU, 13 SWP, 14 GND1, 15 VBAT (power), 16, 17

## CON16B_0
designator J?
pins: 1, 2, 3, 4, 5, 6, 7, 8, 9, 10, 11, 12, 13, 14, 15, 16

## CON20_0
designator J?
pins: 1, 2, 3, 4, 5, 6, 7, 8, 9, 10, 11, 12, 13, 14, 15, 16

## CON20_5
designator J?
pins: 1, 2, 3, 4, 5, 6, 7, 8, 9, 10, 11, 12, 13, 14, 15, 16, 17, 18, 19, 20, 21, 22, 23, 24, 25, 26, 27, 28, 29, 30

## CON20A_0
designator J?
pins: 1, 2, 3, 4, 5, 6, 7, 8, 9, 10, 11, 12, 13, 14, 15, 16, 17, 18, 19, 20, 21, 22

## CON20B_0
designator J?
pins: 1, 2, 3, 4, 5, 6, 7, 8, 9, 10, 11, 12, 13, 14, 15, 16, 17, 18, 19, 20

## CON25_0
designator J?
pins: 1, 2, 3, 4, 5, 6, 7, 8, 9, 10, 11, 12, 13, 14, 15, 16, 17, 18, 19, 20, 21, 22, 23, 24, 25, 26, 27, 28, 29, 30

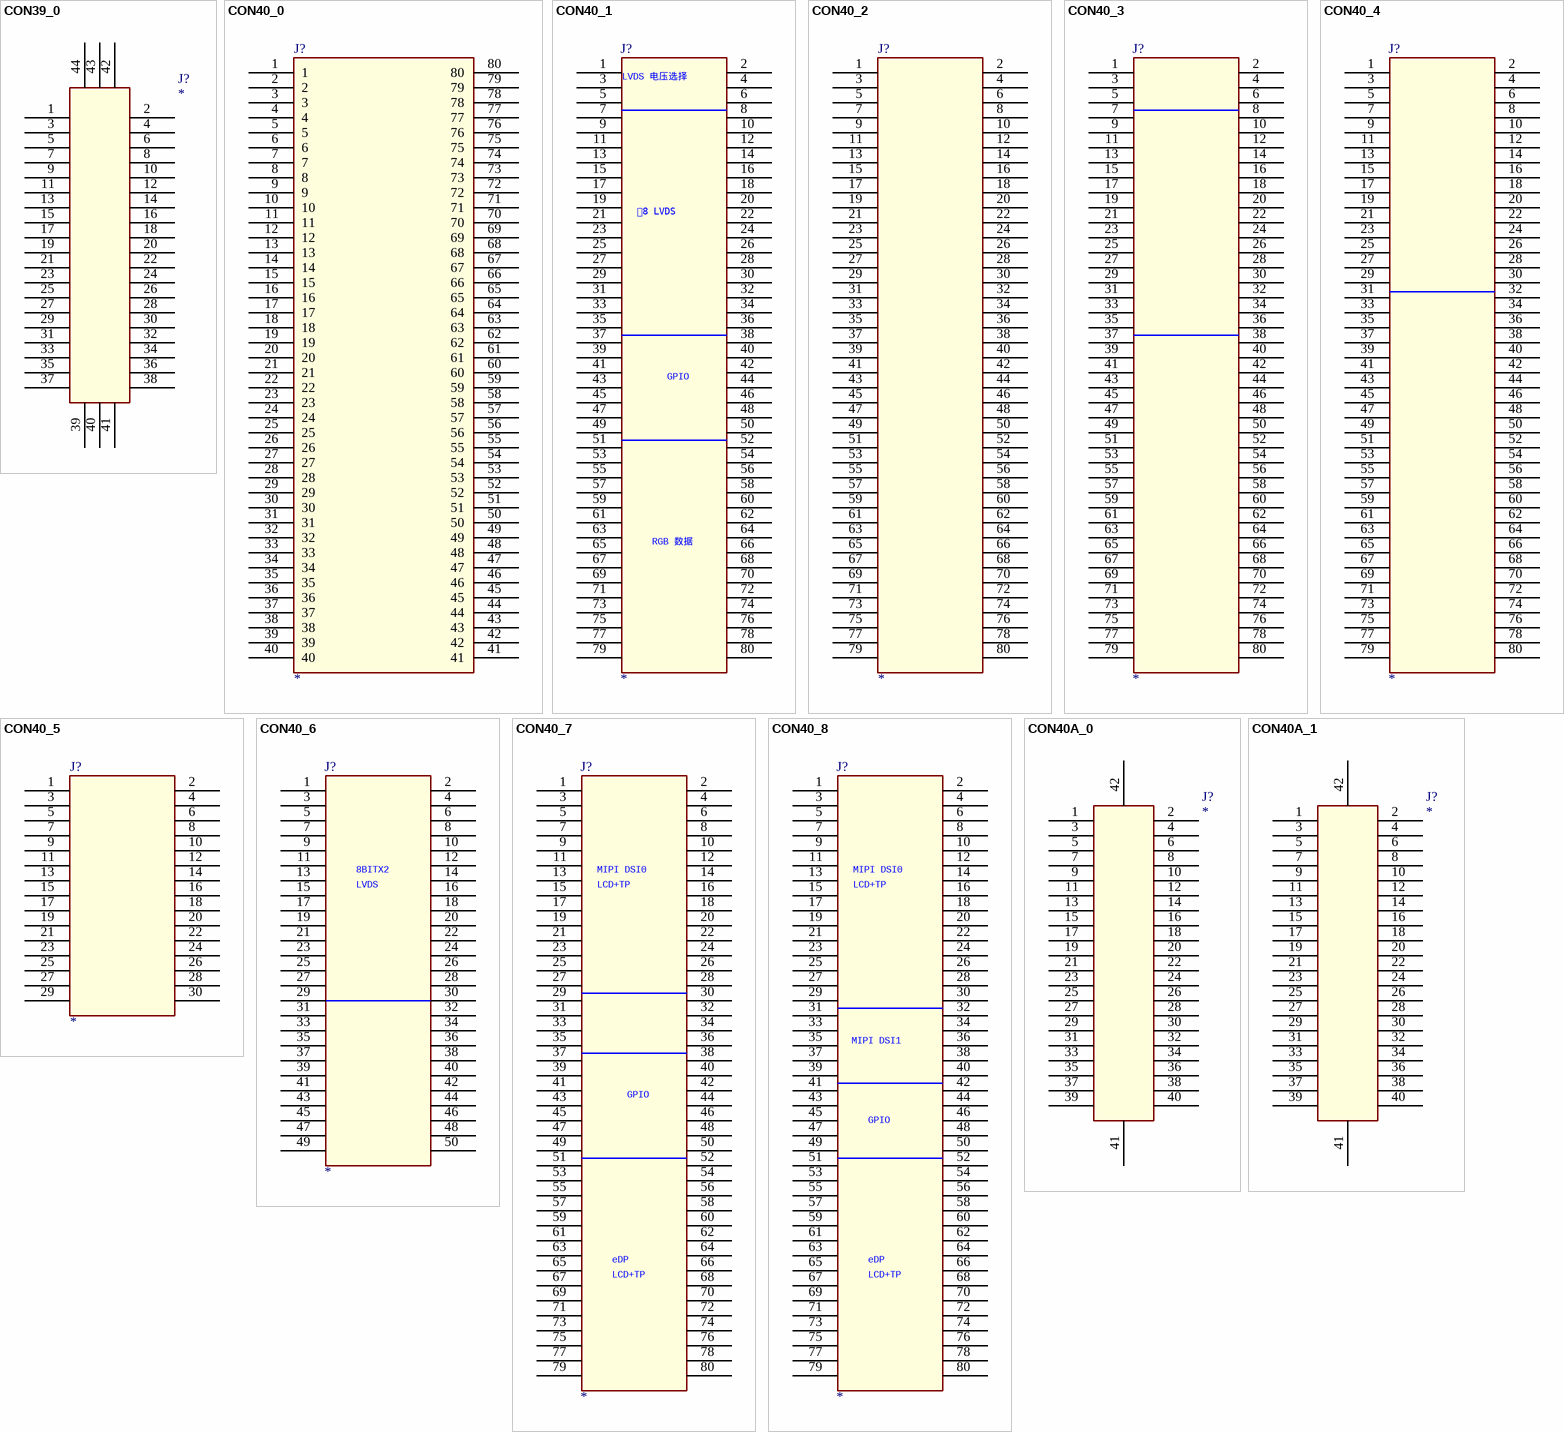
[diagram p6: symbols CON39_0 to CON40A_1]

## CON39_0
designator J?
pins: 1, 2, 3, 4, 5, 6, 7, 8, 9, 10, 11, 12, 13, 14, 15, 16, 17, 18, 19, 20, 21, 22, 23, 24, 25, 26, 27, 28, 29, 30, 31, 32, 33, 34, 35, 36, 37, 38, 39, 40, 41, 42, 43, 44

## CON40_0
designator J?
pins: 1, 2, 3, 4, 5, 6, 7, 8, 9, 10, 11, 12, 13, 14, 15, 16, 17, 18, 19, 20, 21, 22, 23, 24, 25, 26, 27, 28, 29, 30, 31, 32, 33, 34, 35, 36, 37, 38, 39, 40, 41, 42, 43, 44, 45, 46, 47, 48, 49, 50, 51, 52, 53, 54, 55, 56, 57, 58, 59, 60, 61, 62, 63, 64, 65, 66, 67, 68, 69, 70, 71, 72, 73, 74, 75, 76, 77, 78, 79, 80

## CON40_1
designator J?
pins: 1, 2, 3, 4, 5, 6, 7, 8, 9, 10, 11, 12, 13, 14, 15, 16, 17, 18, 19, 20, 21, 22, 23, 24, 25, 26, 27, 28, 29, 30, 31, 32, 33, 34, 35, 36, 37, 38, 39, 40, 41, 42, 43, 44, 45, 46, 47, 48, 49, 50, 51, 52, 53, 54, 55, 56, 57, 58, 59, 60, 61, 62, 63, 64, 65, 66, 67, 68, 69, 70, 71, 72, 73, 74, 75, 76, 77, 78, 79, 80
text: LVDS 电压选择; ˫8 LVDS; GPIO; RGB 数据

## CON40_2
designator J?
pins: 1, 2, 3, 4, 5, 6, 7, 8, 9, 10, 11, 12, 13, 14, 15, 16, 17, 18, 19, 20, 21, 22, 23, 24, 25, 26, 27, 28, 29, 30, 31, 32, 33, 34, 35, 36, 37, 38, 39, 40, 41, 42, 43, 44, 45, 46, 47, 48, 49, 50, 51, 52, 53, 54, 55, 56, 57, 58, 59, 60, 61, 62, 63, 64, 65, 66, 67, 68, 69, 70, 71, 72, 73, 74, 75, 76, 77, 78, 79, 80

## CON40_3
designator J?
pins: 1, 2, 3, 4, 5, 6, 7, 8, 9, 10, 11, 12, 13, 14, 15, 16, 17, 18, 19, 20, 21, 22, 23, 24, 25, 26, 27, 28, 29, 30, 31, 32, 33, 34, 35, 36, 37, 38, 39, 40, 41, 42, 43, 44, 45, 46, 47, 48, 49, 50, 51, 52, 53, 54, 55, 56, 57, 58, 59, 60, 61, 62, 63, 64, 65, 66, 67, 68, 69, 70, 71, 72, 73, 74, 75, 76, 77, 78, 79, 80

## CON40_4
designator J?
pins: 1, 2, 3, 4, 5, 6, 7, 8, 9, 10, 11, 12, 13, 14, 15, 16, 17, 18, 19, 20, 21, 22, 23, 24, 25, 26, 27, 28, 29, 30, 31, 32, 33, 34, 35, 36, 37, 38, 39, 40, 41, 42, 43, 44, 45, 46, 47, 48, 49, 50, 51, 52, 53, 54, 55, 56, 57, 58, 59, 60, 61, 62, 63, 64, 65, 66, 67, 68, 69, 70, 71, 72, 73, 74, 75, 76, 77, 78, 79, 80

## CON40_5
designator J?
pins: 1, 2, 3, 4, 5, 6, 7, 8, 9, 10, 11, 12, 13, 14, 15, 16, 17, 18, 19, 20, 21, 22, 23, 24, 25, 26, 27, 28, 29, 30

## CON40_6
designator J?
pins: 1, 2, 3, 4, 5, 6, 7, 8, 9, 10, 11, 12, 13, 14, 15, 16, 17, 18, 19, 20, 21, 22, 23, 24, 25, 26, 27, 28, 29, 30, 31, 32, 33, 34, 35, 36, 37, 38, 39, 40, 41, 42, 43, 44, 45, 46, 47, 48, 49, 50
text: 8BITX2; LVDS

## CON40_7
designator J?
pins: 1, 2, 3, 4, 5, 6, 7, 8, 9, 10, 11, 12, 13, 14, 15, 16, 17, 18, 19, 20, 21, 22, 23, 24, 25, 26, 27, 28, 29, 30, 31, 32, 33, 34, 35, 36, 37, 38, 39, 40, 41, 42, 43, 44, 45, 46, 47, 48, 49, 50, 51, 52, 53, 54, 55, 56, 57, 58, 59, 60, 61, 62, 63, 64, 65, 66, 67, 68, 69, 70, 71, 72, 73, 74, 75, 76, 77, 78, 79, 80
text: MIPI DSI0; LCD+TP; GPIO; eDP

## CON40_8
designator J?
pins: 1, 2, 3, 4, 5, 6, 7, 8, 9, 10, 11, 12, 13, 14, 15, 16, 17, 18, 19, 20, 21, 22, 23, 24, 25, 26, 27, 28, 29, 30, 31, 32, 33, 34, 35, 36, 37, 38, 39, 40, 41, 42, 43, 44, 45, 46, 47, 48, 49, 50, 51, 52, 53, 54, 55, 56, 57, 58, 59, 60, 61, 62, 63, 64, 65, 66, 67, 68, 69, 70, 71, 72, 73, 74, 75, 76, 77, 78, 79, 80
text: MIPI DSI0; LCD+TP; MIPI DSI1; GPIO; eDP

## CON40A_0
designator J?
pins: 1, 2, 3, 4, 5, 6, 7, 8, 9, 10, 11, 12, 13, 14, 15, 16, 17, 18, 19, 20, 21, 22, 23, 24, 25, 26, 27, 28, 29, 30, 31, 32, 33, 34, 35, 36, 37, 38, 39, 40, 41, 42

## CON40A_1
designator J?
pins: 1, 2, 3, 4, 5, 6, 7, 8, 9, 10, 11, 12, 13, 14, 15, 16, 17, 18, 19, 20, 21, 22, 23, 24, 25, 26, 27, 28, 29, 30, 31, 32, 33, 34, 35, 36, 37, 38, 39, 40, 41, 42

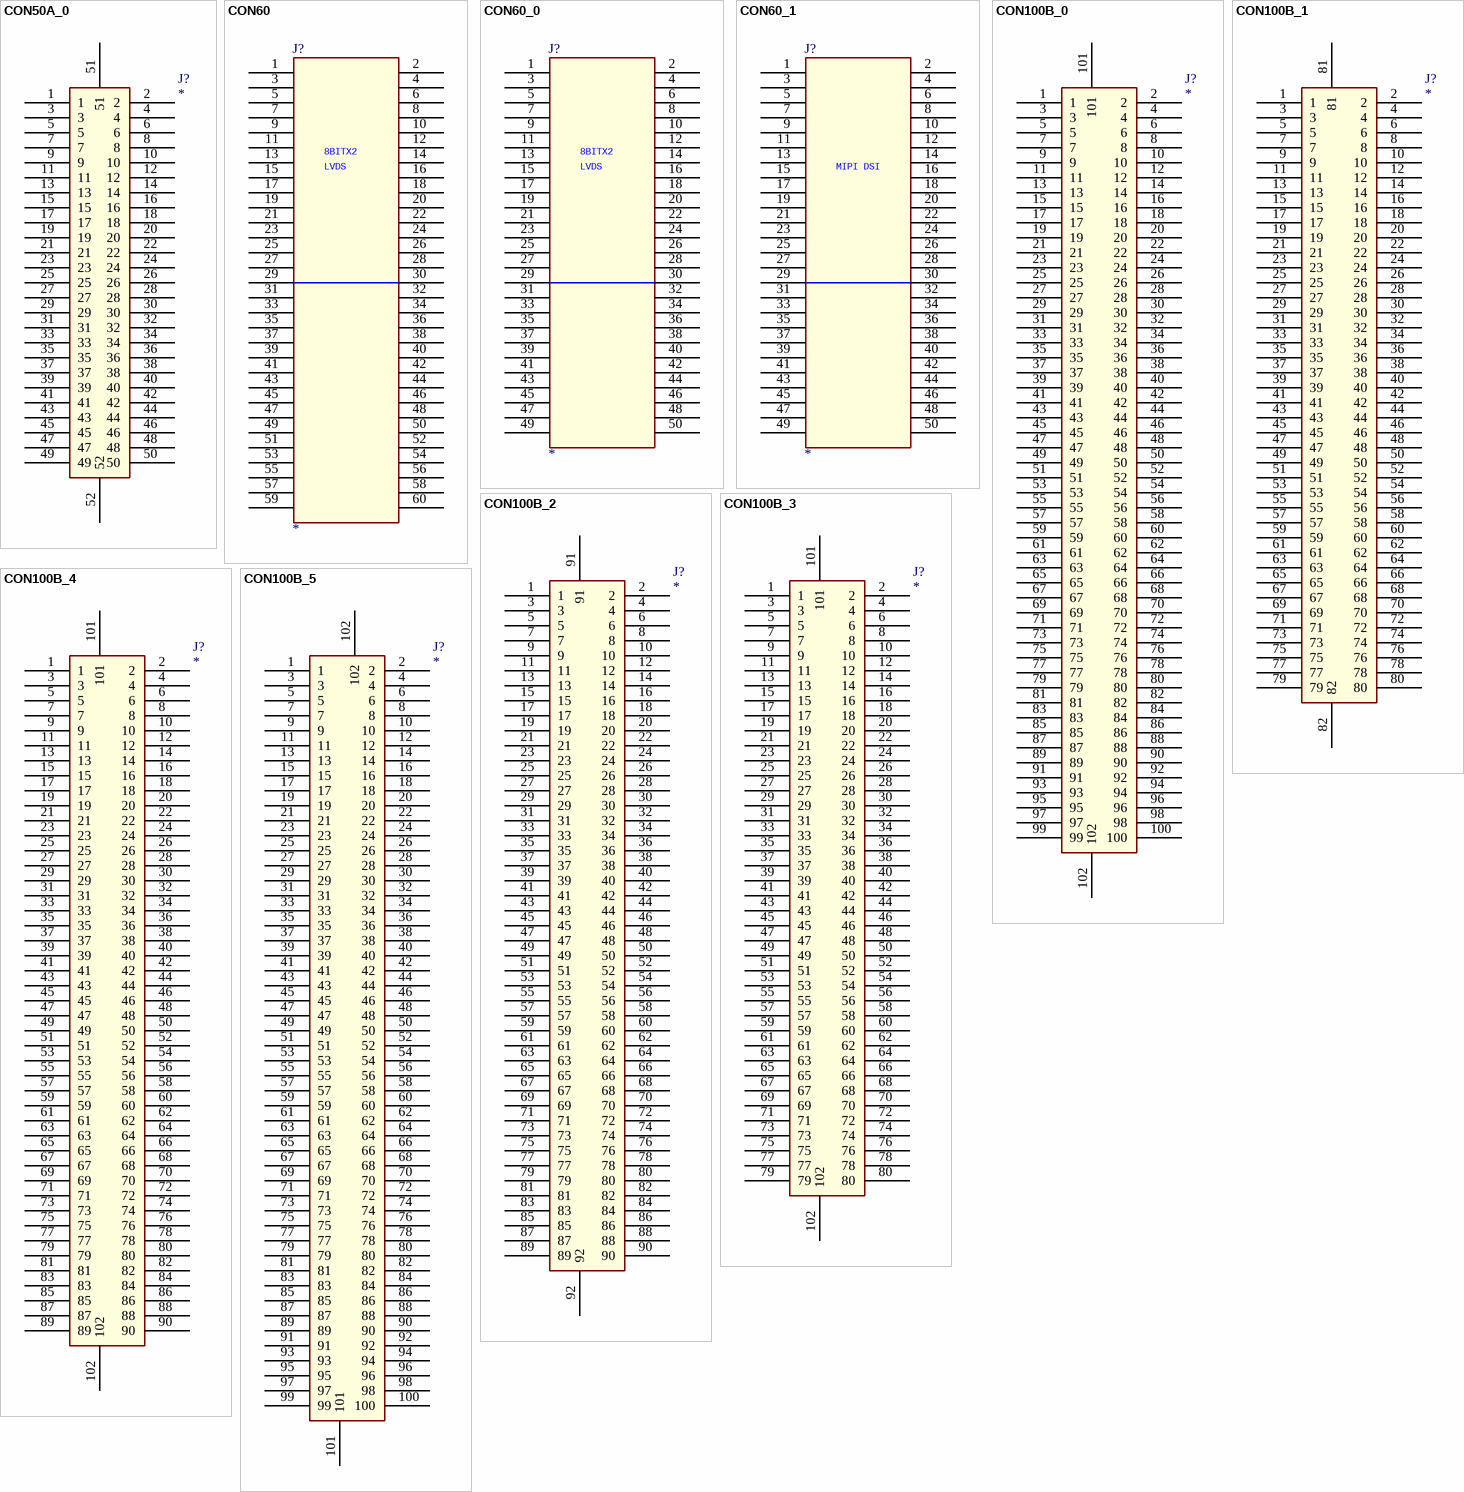
[diagram p7: symbols CON50A_0 to CON100B_5]

## CON50A_0
designator J?
footprint 25PIN-S2.54
pins: 1, 2, 3, 4, 5, 6, 7, 8, 9, 10, 11, 12, 13, 14, 15, 16, 17, 18, 19, 20, 21, 22, 23, 24, 25, 26, 27, 28, 29, 30, 31, 32, 33, 34, 35, 36, 37, 38, 39, 40, 41, 42, 43, 44, 45, 46, 47, 48, 49, 50, 51, 52

## CON60
designator J?
pins: 1, 2, 3, 4, 5, 6, 7, 8, 9, 10, 11, 12, 13, 14, 15, 16, 17, 18, 19, 20, 21, 22, 23, 24, 25, 26, 27, 28, 29, 30, 31, 32, 33, 34, 35, 36, 37, 38, 39, 40, 41, 42, 43, 44, 45, 46, 47, 48, 49, 50, 51, 52, 53, 54, 55, 56, 57, 58, 59, 60
text: 8BITX2; LVDS

## CON60_0
designator J?
pins: 1, 2, 3, 4, 5, 6, 7, 8, 9, 10, 11, 12, 13, 14, 15, 16, 17, 18, 19, 20, 21, 22, 23, 24, 25, 26, 27, 28, 29, 30, 31, 32, 33, 34, 35, 36, 37, 38, 39, 40, 41, 42, 43, 44, 45, 46, 47, 48, 49, 50
text: 8BITX2; LVDS

## CON60_1
designator J?
pins: 1, 2, 3, 4, 5, 6, 7, 8, 9, 10, 11, 12, 13, 14, 15, 16, 17, 18, 19, 20, 21, 22, 23, 24, 25, 26, 27, 28, 29, 30, 31, 32, 33, 34, 35, 36, 37, 38, 39, 40, 41, 42, 43, 44, 45, 46, 47, 48, 49, 50
text: MIPI DSI

## CON100B_0
designator J?
footprint 50PIN-S1.27
pins: 1, 2, 3, 4, 5, 6, 7, 8, 9, 10, 11, 12, 13, 14, 15, 16, 17, 18, 19, 20, 21, 22, 23, 24, 25, 26, 27, 28, 29, 30, 31, 32, 33, 34, 35, 36, 37, 38, 39, 40, 41, 42, 43, 44, 45, 46, 47, 48, 49, 50, 51, 52, 53, 54, 55, 56, 57, 58, 59, 60, 61, 62, 63, 64, 65, 66, 67, 68, 69, 70, 71, 72, 73, 74, 75, 76, 77, 78, 79, 80, 81, 82, 83, 84, 85, 86, 87, 88, 89, 90, 91, 92, 93, 94, 95, 96, 97, 98, 99, 100, 101, 102

## CON100B_1
designator J?
footprint 50PIN-S1.27
pins: 1, 2, 3, 4, 5, 6, 7, 8, 9, 10, 11, 12, 13, 14, 15, 16, 17, 18, 19, 20, 21, 22, 23, 24, 25, 26, 27, 28, 29, 30, 31, 32, 33, 34, 35, 36, 37, 38, 39, 40, 41, 42, 43, 44, 45, 46, 47, 48, 49, 50, 51, 52, 53, 54, 55, 56, 57, 58, 59, 60, 61, 62, 63, 64, 65, 66, 67, 68, 69, 70, 71, 72, 73, 74, 75, 76, 77, 78, 79, 80, 81, 82

## CON100B_2
designator J?
footprint 50PIN-S1.27
pins: 1, 2, 3, 4, 5, 6, 7, 8, 9, 10, 11, 12, 13, 14, 15, 16, 17, 18, 19, 20, 21, 22, 23, 24, 25, 26, 27, 28, 29, 30, 31, 32, 33, 34, 35, 36, 37, 38, 39, 40, 41, 42, 43, 44, 45, 46, 47, 48, 49, 50, 51, 52, 53, 54, 55, 56, 57, 58, 59, 60, 61, 62, 63, 64, 65, 66, 67, 68, 69, 70, 71, 72, 73, 74, 75, 76, 77, 78, 79, 80, 81, 82, 83, 84, 85, 86, 87, 88, 89, 90, 91, 92

## CON100B_3
designator J?
footprint 50PIN-S1.27
pins: 1, 2, 3, 4, 5, 6, 7, 8, 9, 10, 11, 12, 13, 14, 15, 16, 17, 18, 19, 20, 21, 22, 23, 24, 25, 26, 27, 28, 29, 30, 31, 32, 33, 34, 35, 36, 37, 38, 39, 40, 41, 42, 43, 44, 45, 46, 47, 48, 49, 50, 51, 52, 53, 54, 55, 56, 57, 58, 59, 60, 61, 62, 63, 64, 65, 66, 67, 68, 69, 70, 71, 72, 73, 74, 75, 76, 77, 78, 79, 80, 101, 102

## CON100B_4
designator J?
footprint 50PIN-S1.27
pins: 1, 2, 3, 4, 5, 6, 7, 8, 9, 10, 11, 12, 13, 14, 15, 16, 17, 18, 19, 20, 21, 22, 23, 24, 25, 26, 27, 28, 29, 30, 31, 32, 33, 34, 35, 36, 37, 38, 39, 40, 41, 42, 43, 44, 45, 46, 47, 48, 49, 50, 51, 52, 53, 54, 55, 56, 57, 58, 59, 60, 61, 62, 63, 64, 65, 66, 67, 68, 69, 70, 71, 72, 73, 74, 75, 76, 77, 78, 79, 80, 81, 82, 83, 84, 85, 86, 87, 88, 89, 90, 101, 102

## CON100B_5
designator J?
footprint 50PIN-S1.27
pins: 1, 2, 3, 4, 5, 6, 7, 8, 9, 10, 11, 12, 13, 14, 15, 16, 17, 18, 19, 20, 21, 22, 23, 24, 25, 26, 27, 28, 29, 30, 31, 32, 33, 34, 35, 36, 37, 38, 39, 40, 41, 42, 43, 44, 45, 46, 47, 48, 49, 50, 51, 52, 53, 54, 55, 56, 57, 58, 59, 60, 61, 62, 63, 64, 65, 66, 67, 68, 69, 70, 71, 72, 73, 74, 75, 76, 77, 78, 79, 80, 81, 82, 83, 84, 85, 86, 87, 88, 89, 90, 91, 92, 93, 94, 95, 96, 97, 98, 99, 100, 101, 102

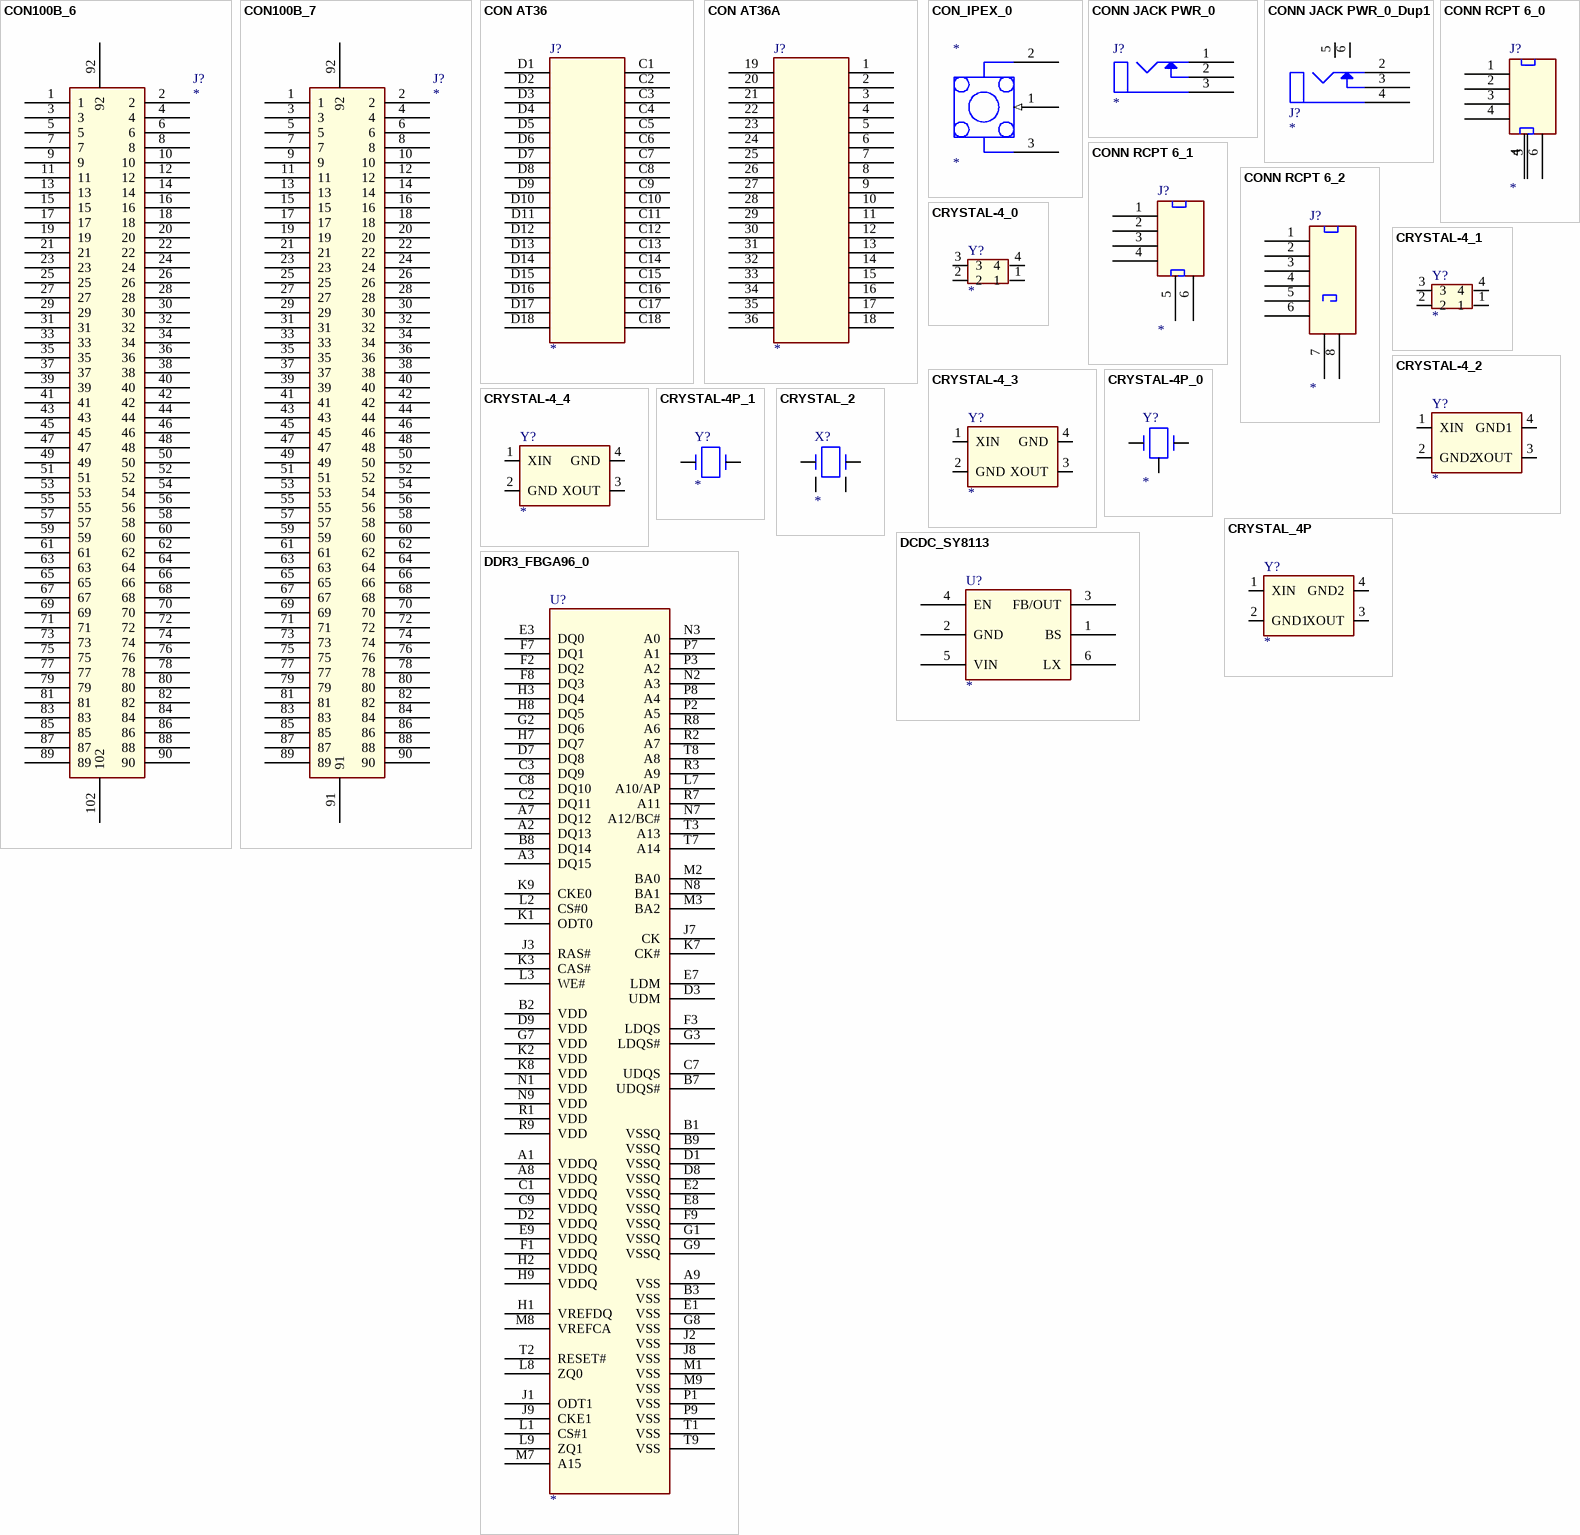
[diagram p8: symbols CON100B_6 to DDR3_FBGA96_0]

## CON100B_6
designator J?
footprint 50PIN-S1.27
pins: 1, 2, 3, 4, 5, 6, 7, 8, 9, 10, 11, 12, 13, 14, 15, 16, 17, 18, 19, 20, 21, 22, 23, 24, 25, 26, 27, 28, 29, 30, 31, 32, 33, 34, 35, 36, 37, 38, 39, 40, 41, 42, 43, 44, 45, 46, 47, 48, 49, 50, 51, 52, 53, 54, 55, 56, 57, 58, 59, 60, 61, 62, 63, 64, 65, 66, 67, 68, 69, 70, 71, 72, 73, 74, 75, 76, 77, 78, 79, 80, 81, 82, 83, 84, 85, 86, 87, 88, 89, 90, 92, 102

## CON100B_7
designator J?
footprint 50PIN-S1.27
pins: 1, 2, 3, 4, 5, 6, 7, 8, 9, 10, 11, 12, 13, 14, 15, 16, 17, 18, 19, 20, 21, 22, 23, 24, 25, 26, 27, 28, 29, 30, 31, 32, 33, 34, 35, 36, 37, 38, 39, 40, 41, 42, 43, 44, 45, 46, 47, 48, 49, 50, 51, 52, 53, 54, 55, 56, 57, 58, 59, 60, 61, 62, 63, 64, 65, 66, 67, 68, 69, 70, 71, 72, 73, 74, 75, 76, 77, 78, 79, 80, 81, 82, 83, 84, 85, 86, 87, 88, 89, 90, 91, 92

## CON AT36
designator J?
pins: C1, C2, C3, C4, C5, C6, C7, C8, C9, C10, C11, C12, C13, C14, C15, C16, C17, C18, D1, D2, D3, D4, D5, D6, D7, D8, D9, D10, D11, D12, D13, D14, D15, D16, D17, D18

## CON AT36A
designator J?
pins: 1, 2, 3, 4, 5, 6, 7, 8, 9, 10, 11, 12, 13, 14, 15, 16, 17, 18, 19, 20, 21, 22, 23, 24, 25, 26, 27, 28, 29, 30, 31, 32, 33, 34, 35, 36

## CON_IPEX_0
designator *
?; OriginalSymbolOrigin: (-100,200); PATH: ?; JEDEC_TYPE: ?
pins: 1 IN (in), 2 GND1 (power), 3 GND2 (power)

## CONN JACK PWR_0
designator J?
pins: 1, 2, 3

## CONN JACK PWR_0_Dup1
designator J?
pins: 2, 3, 4, 5, 6

## CONN RCPT 6_0
designator J?
pins: 1, 2, 3, 4, 4, 4, 4, 5, 6

## CONN RCPT 6_1
designator J?
pins: 1, 2, 3, 4, 5, 6

## CONN RCPT 6_2
designator J?
pins: 1, 2, 3, 4, 5, 6, 7, 8

## CRYSTAL-4_0
designator Y?
footprint CRY-3225
pins: 1, 2, 3, 4 (power)

## CRYSTAL-4_1
designator Y?
footprint CRY-3225
pins: 1, 2, 3, 4

## CRYSTAL-4_2
designator Y?
footprint CRY-3225
pins: 1 XIN, 2 GND2, 3 XOUT, 4 GND1

## CRYSTAL-4_3
designator Y?
footprint CRY-3225
pins: 1 XIN, 2 GND (power), 3 XOUT, 4 GND (power)

## CRYSTAL-4_4
designator Y?
footprint CRY-3225
pins: 1 XIN, 2 GND (power), 3 XOUT, 4 GND (power)

## CRYSTAL-4P_0
designator Y?
pins: 1, 2, 3

## CRYSTAL-4P_1
designator Y?
pins: 1, 2

## CRYSTAL_2
designator X?
pins: 1, 2, 3, 4

## CRYSTAL_4P
designator Y?
footprint CRY-3225
pins: 1 XIN, 2 GND1, 3 XOUT, 4 GND2

## DCDC_SY8113
designator U?
pins: 1 BS, 2 GND, 3 FB/OUT, 4 EN, 5 VIN, 6 LX

## DDR3_FBGA96_0
designator U?
footprint DDRII_X16
pins: A1 VDDQ (power), A2 DQ13, A3 DQ15, A7 DQ12, A8 VDDQ (power), A9 VSS (power), B1 VSSQ (power), B2 VDD (power), B3 VSS (power), B7 UDQS#, B8 DQ14, B9 VSSQ (power), C1 VDDQ (power), C2 DQ11, C3 DQ9, C7 UDQS, C8 DQ10, C9 VDDQ (power), D1 VSSQ (power), D2 VDDQ (power), D3 UDM, D7 DQ8, D8 VSSQ (power), D9 VDD (power), E1 VSS (power), E2 VSSQ (power), E3 DQ0, E7 LDM, E8 VSSQ (power), E9 VDDQ (power), F1 VDDQ (power), F2 DQ2, F3 LDQS, F7 DQ1, F8 DQ3, F9 VSSQ (power), G1 VSSQ (power), G2 DQ6, G3 LDQS#, G7 VDD (power), G8 VSS (power), G9 VSSQ (power), H1 VREFDQ, H2 VDDQ (power), H3 DQ4, H7 DQ7, H8 DQ5, H9 VDDQ (power), J1 ODT1, J2 VSS (power), J3 RAS#, J7 CK, J8 VSS (power), J9 CKE1, K1 ODT0, K2 VDD (power), K3 CAS#, K7 CK#, K8 VDD (power), K9 CKE0, L1 CS#1, L2 CS#0, L3 WE#, L7 A10/AP, L8 ZQ0, L9 ZQ1, M1 VSS (power), M2 BA0, M3 BA2, M7 A15, M8 VREFCA, M9 VSS (power), N1 VDD (power), N2 A3, N3 A0, N7 A12/BC#, N8 BA1, N9 VDD (power), P1 VSS (power), P2 A5, P3 A2, P7 A1, P8 A4, P9 VSS (power), R1 VDD (power), R2 A7, R3 A9, R7 A11, R8 A6, R9 VDD (power), T1 VSS (power), T2 RESET#, T3 A13, T7 A14, T8 A8, T9 VSS (power)

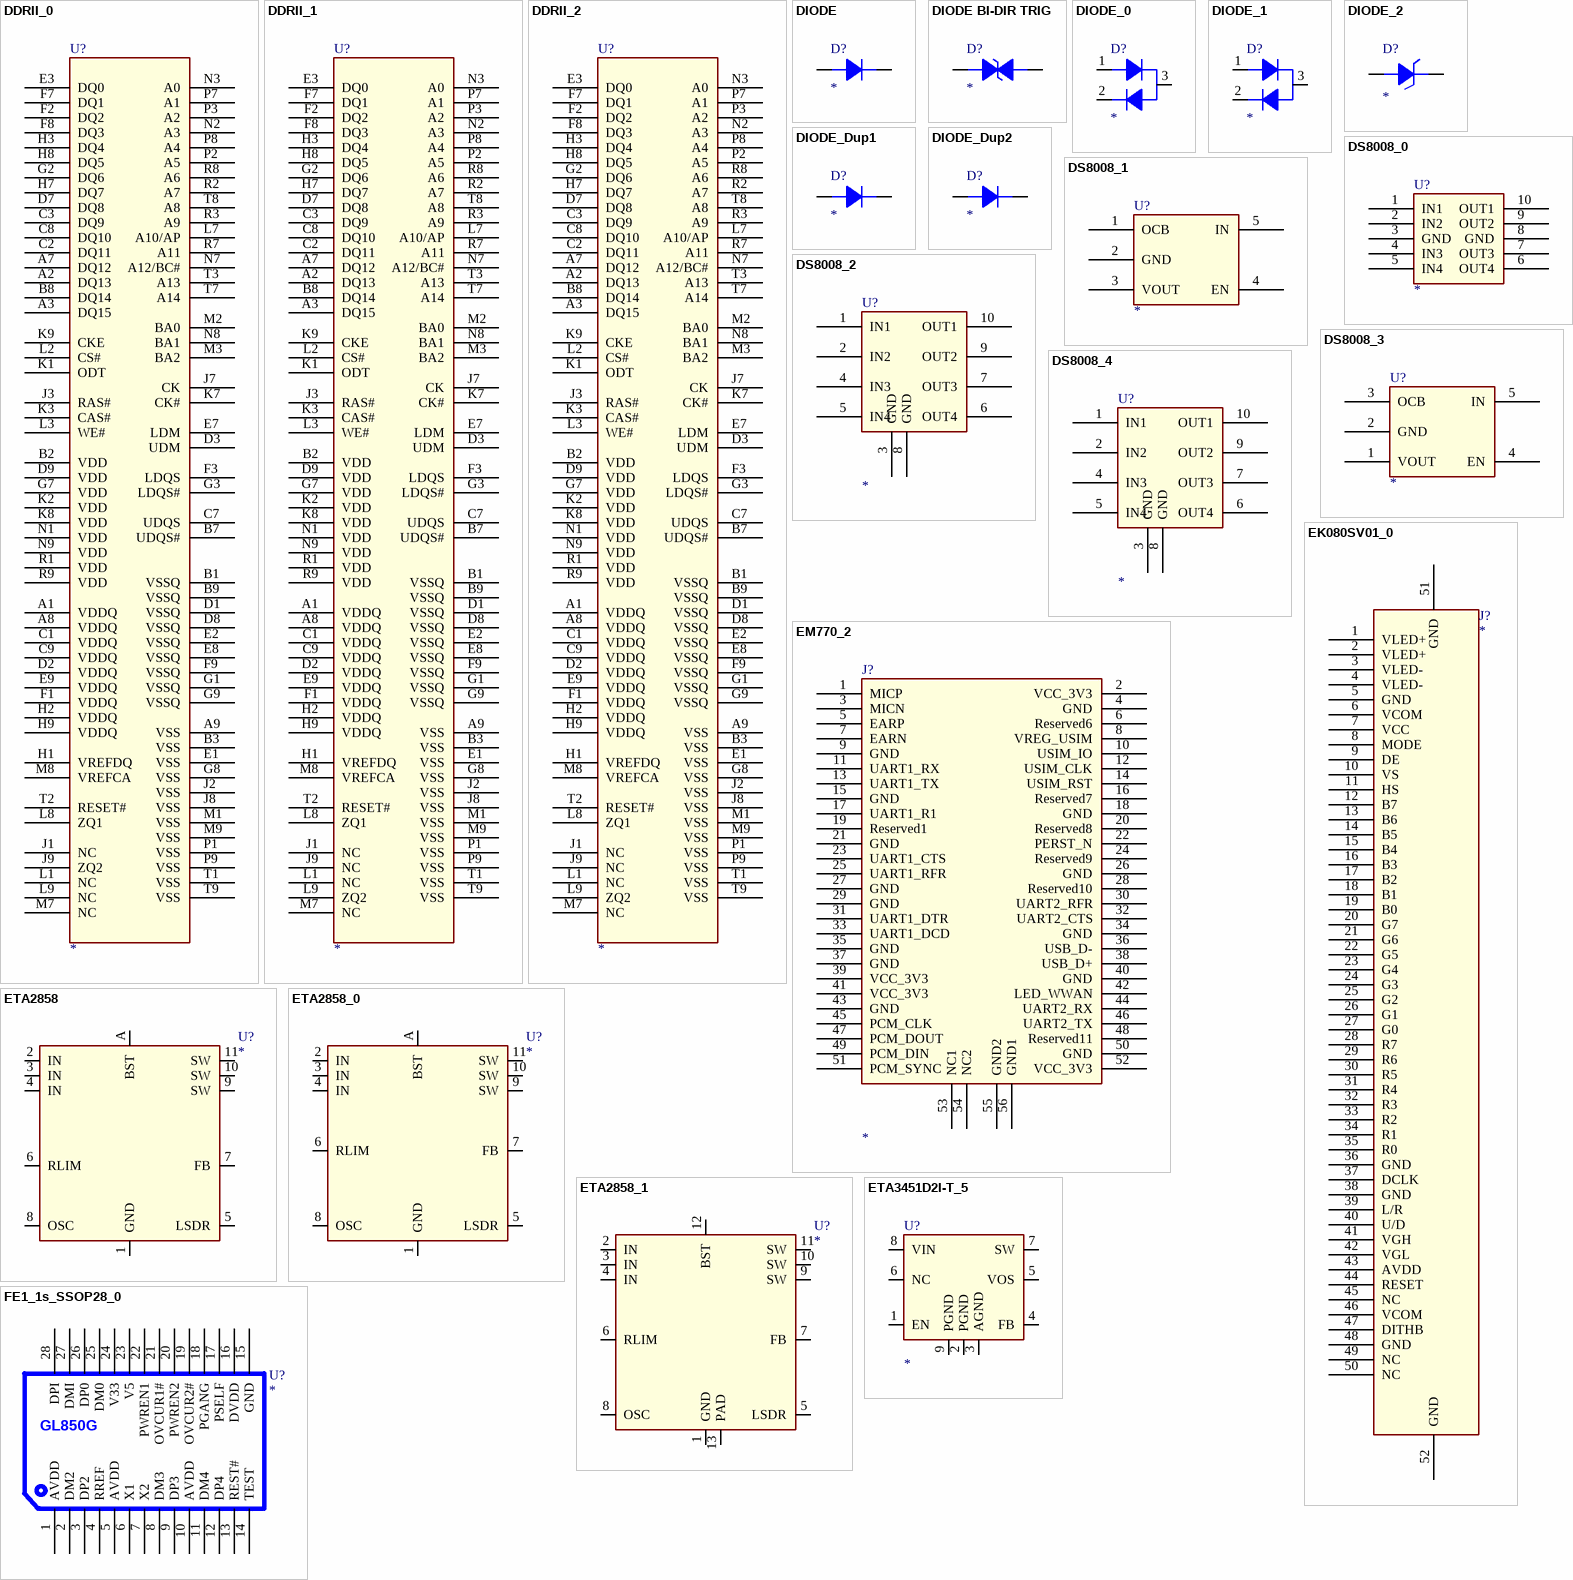
[diagram p9: symbols DDRII_0 to FE1_1s_SSOP28_0]

## DDRII_0
designator U?
footprint DDRII_X16
pins: A1 VDDQ, A2 DQ13, A3 DQ15, A7 DQ12, A8 VDDQ, A9 VSS, B1 VSSQ, B2 VDD, B3 VSS, B7 UDQS#, B8 DQ14, B9 VSSQ, C1 VDDQ, C2 DQ11, C3 DQ9, C7 UDQS, C8 DQ10, C9 VDDQ, D1 VSSQ, D2 VDDQ, D3 UDM, D7 DQ8, D8 VSSQ, D9 VDD, E1 VSS, E2 VSSQ, E3 DQ0, E7 LDM, E8 VSSQ, E9 VDDQ, F1 VDDQ, F2 DQ2, F3 LDQS, F7 DQ1, F8 DQ3, F9 VSSQ, G1 VSSQ, G2 DQ6, G3 LDQS#, G7 VDD, G8 VSS, G9 VSSQ, H1 VREFDQ, H2 VDDQ, H3 DQ4, H7 DQ7, H8 DQ5, H9 VDDQ, J1 NC, J2 VSS, J3 RAS#, J7 CK, J8 VSS, J9 ZQ2, K1 ODT, K2 VDD, K3 CAS#, K7 CK#, K8 VDD, K9 CKE, L1 NC, L2 CS#, L3 WE#, L7 A10/AP, L8 ZQ1, L9 NC, M1 VSS, M2 BA0, M3 BA2, M7 NC, M8 VREFCA, M9 VSS, N1 VDD, N2 A3, N3 A0, N7 A12/BC#, N8 BA1, N9 VDD, P1 VSS, P2 A5, P3 A2, P7 A1, P8 A4, P9 VSS, R1 VDD, R2 A7, R3 A9, R7 A11, R8 A6, R9 VDD, T1 VSS, T2 RESET#, T3 A13, T7 A14, T8 A8, T9 VSS

## DDRII_1
designator U?
footprint DDRII_X16
pins: A1 VDDQ, A2 DQ13, A3 DQ15, A7 DQ12, A8 VDDQ, A9 VSS, B1 VSSQ, B2 VDD, B3 VSS, B7 UDQS#, B8 DQ14, B9 VSSQ, C1 VDDQ, C2 DQ11, C3 DQ9, C7 UDQS, C8 DQ10, C9 VDDQ, D1 VSSQ, D2 VDDQ, D3 UDM, D7 DQ8, D8 VSSQ, D9 VDD, E1 VSS, E2 VSSQ, E3 DQ0, E7 LDM, E8 VSSQ, E9 VDDQ, F1 VDDQ, F2 DQ2, F3 LDQS, F7 DQ1, F8 DQ3, F9 VSSQ, G1 VSSQ, G2 DQ6, G3 LDQS#, G7 VDD, G8 VSS, G9 VSSQ, H1 VREFDQ, H2 VDDQ, H3 DQ4, H7 DQ7, H8 DQ5, H9 VDDQ, J1 NC, J2 VSS, J3 RAS#, J7 CK, J8 VSS, J9 NC, K1 ODT, K2 VDD, K3 CAS#, K7 CK#, K8 VDD, K9 CKE, L1 NC, L2 CS#, L3 WE#, L7 A10/AP, L8 ZQ1, L9 ZQ2, M1 VSS, M2 BA0, M3 BA2, M7 NC, M8 VREFCA, M9 VSS, N1 VDD, N2 A3, N3 A0, N7 A12/BC#, N8 BA1, N9 VDD, P1 VSS, P2 A5, P3 A2, P7 A1, P8 A4, P9 VSS, R1 VDD, R2 A7, R3 A9, R7 A11, R8 A6, R9 VDD, T1 VSS, T2 RESET#, T3 A13, T7 A14, T8 A8, T9 VSS

## DDRII_2
designator U?
footprint DDRII_X16
pins: A1 VDDQ, A2 DQ13, A3 DQ15, A7 DQ12, A8 VDDQ, A9 VSS, B1 VSSQ, B2 VDD, B3 VSS, B7 UDQS#, B8 DQ14, B9 VSSQ, C1 VDDQ, C2 DQ11, C3 DQ9, C7 UDQS, C8 DQ10, C9 VDDQ, D1 VSSQ, D2 VDDQ, D3 UDM, D7 DQ8, D8 VSSQ, D9 VDD, E1 VSS, E2 VSSQ, E3 DQ0, E7 LDM, E8 VSSQ, E9 VDDQ, F1 VDDQ, F2 DQ2, F3 LDQS, F7 DQ1, F8 DQ3, F9 VSSQ, G1 VSSQ, G2 DQ6, G3 LDQS#, G7 VDD, G8 VSS, G9 VSSQ, H1 VREFDQ, H2 VDDQ, H3 DQ4, H7 DQ7, H8 DQ5, H9 VDDQ, J1 NC, J2 VSS, J3 RAS#, J7 CK, J8 VSS, J9 NC, K1 ODT, K2 VDD, K3 CAS#, K7 CK#, K8 VDD, K9 CKE, L1 NC, L2 CS#, L3 WE#, L7 A10/AP, L8 ZQ1, L9 ZQ2, M1 VSS, M2 BA0, M3 BA2, M7 NC, M8 VREFCA, M9 VSS, N1 VDD, N2 A3, N3 A0, N7 A12/BC#, N8 BA1, N9 VDD, P1 VSS, P2 A5, P3 A2, P7 A1, P8 A4, P9 VSS, R1 VDD, R2 A7, R3 A9, R7 A11, R8 A6, R9 VDD, T1 VSS, T2 RESET#, T3 A13, T7 A14, T8 A8, T9 VSS

## DIODE
designator D?
pins: 1 A, 2 K

## DIODE BI-DIR TRIG
designator D?
pins: 1, 2

## DIODE_0
designator D?
pins: 1 ANODE, 2 CATHODE, 3 COMMON

## DIODE_1
designator D?
pins: 1 ANODE, 2 CATHODE, 3 COMMON

## DIODE_2
designator D?
pins: 1 A, 2 K

## DIODE_Dup1
designator D?
pins: 1 A, 2 K

## DIODE_Dup2
designator D?
pins: 1 A, 2 K

## DS8008_0
designator U?
pins: 1 IN1, 2 IN2, 3 GND (power), 4 IN3, 5 IN4, 6 OUT4, 7 OUT3, 8 GND (power), 9 OUT2, 10 OUT1

## DS8008_1
designator U?
pins: 1 OCB, 2 GND, 3 VOUT, 4 EN, 5 IN

## DS8008_2
designator U?
pins: 1 IN1, 2 IN2, 3 GND (power), 4 IN3, 5 IN4, 6 OUT4, 7 OUT3, 8 GND, 9 OUT2, 10 OUT1

## DS8008_3
designator U?
pins: 1 VOUT, 2 GND, 3 OCB, 4 EN, 5 IN

## DS8008_4
designator U?
pins: 1 IN1, 2 IN2, 3 GND (power), 4 IN3, 5 IN4, 6 OUT4, 7 OUT3, 8 GND (power), 9 OUT2, 10 OUT1

## EK080SV01_0
designator J?
pins: 1 VLED+, 2 VLED+, 3 VLED-, 4 VLED-, 5 GND, 6 VCOM, 7 VCC, 8 MODE, 9 DE, 10 VS, 11 HS, 12 B7, 13 B6, 14 B5, 15 B4, 16 B3, 17 B2, 18 B1, 19 B0, 20 G7, 21 G6, 22 G5, 23 G4, 24 G3, 25 G2, 26 G1, 27 G0, 28 R7, 29 R6, 30 R5, 31 R4, 32 R3, 33 R2, 34 R1, 35 R0, 36 GND, 37 DCLK, 38 GND, 39 L/R, 40 U/D, 41 VGH, 42 VGL, 43 AVDD, 44 RESET, 45 NC, 46 VCOM, 47 DITHB, 48 GND, 49 NC, 50 NC, 51 GND, 52 GND

## EM770_2
designator J?
pins: 1 MICP, 2 VCC_3V3 (power), 3 MICN, 4 GND (power), 5 EARP, 6 Reserved6, 7 EARN, 8 VREG_USIM, 9 GND (power), 10 USIM_IO, 11 UART1_RX, 12 USIM_CLK, 13 UART1_TX, 14 USIM_RST, 15 GND (power), 16 Reserved7, 17 UART1_R1, 18 GND (power), 19 Reserved1, 20 Reserved8, 21 GND (power), 22 PERST_N, 23 UART1_CTS, 24 Reserved9, 25 UART1_RFR, 26 GND (power), 27 GND (power), 28 Reserved10, 29 GND (power), 30 UART2_RFR, 31 UART1_DTR, 32 UART2_CTS, 33 UART1_DCD, 34 GND (power), 35 GND (power), 36 USB_D-, 37 GND (power), 38 USB_D+, 39 VCC_3V3 (power), 40 GND (power), 41 VCC_3V3 (power), 42 LED_WWAN, 43 GND (power), 44 UART2_RX, 45 PCM_CLK, 46 UART2_TX, 47 PCM_DOUT, 48 Reserved11, 49 PCM_DIN, 50 GND (power), 51 PCM_SYNC, 52 VCC_3V3 (power), 53 NC1, 54 NC2, 55 GND2, 56 GND1

## ETA2858
designator U?
pins: 1 GND, 2 IN (power), 3 IN (power), 4 IN (power), 5 LSDR, 6 RLIM, 7 FB, 8 OSC, 9 SW (power), 10 SW (power), 11 SW (power), A BST

## ETA2858_0
designator U?
pins: 1 GND, 2 IN (power), 3 IN (power), 4 IN (power), 5 LSDR, 6 RLIM, 7 FB, 8 OSC, 9 SW (power), 10 SW (power), 11 SW (power), A BST

## ETA2858_1
designator U?
pins: 1 GND, 2 IN (power), 3 IN (power), 4 IN (power), 5 LSDR, 6 RLIM, 7 FB, 8 OSC, 9 SW (power), 10 SW (power), 11 SW (power), 12 BST, 13 PAD

## ETA3451D2I-T_5
designator U?
footprint QFN2x2-8L
pins: 1 EN, 2 PGND (power), 3 AGND (power), 4 FB, 5 VOS, 6 NC, 7 SW, 8 VIN (power), 9 PGND (power)

## FE1_1s_SSOP28_0
designator U?
pins: 1 AVDD (power), 2 DM2, 3 DP2, 4 RREF, 5 AVDD (power), 6 X1, 7 X2, 8 DM3, 9 DP3, 10 AVDD (power), 11 DM4, 12 DP4, 13 REST#, 14 TEST, 15 GND, 16 DVDD, 17 PSELF, 18 PGANG, 19 OVCUR2#, 20 PWREN2, 21 OVCUR1#, 22 PWREN1, 23 V5, 24 V33, 25 DM0, 26 DP0, 27 DMI, 28 DPI
text: GL850G

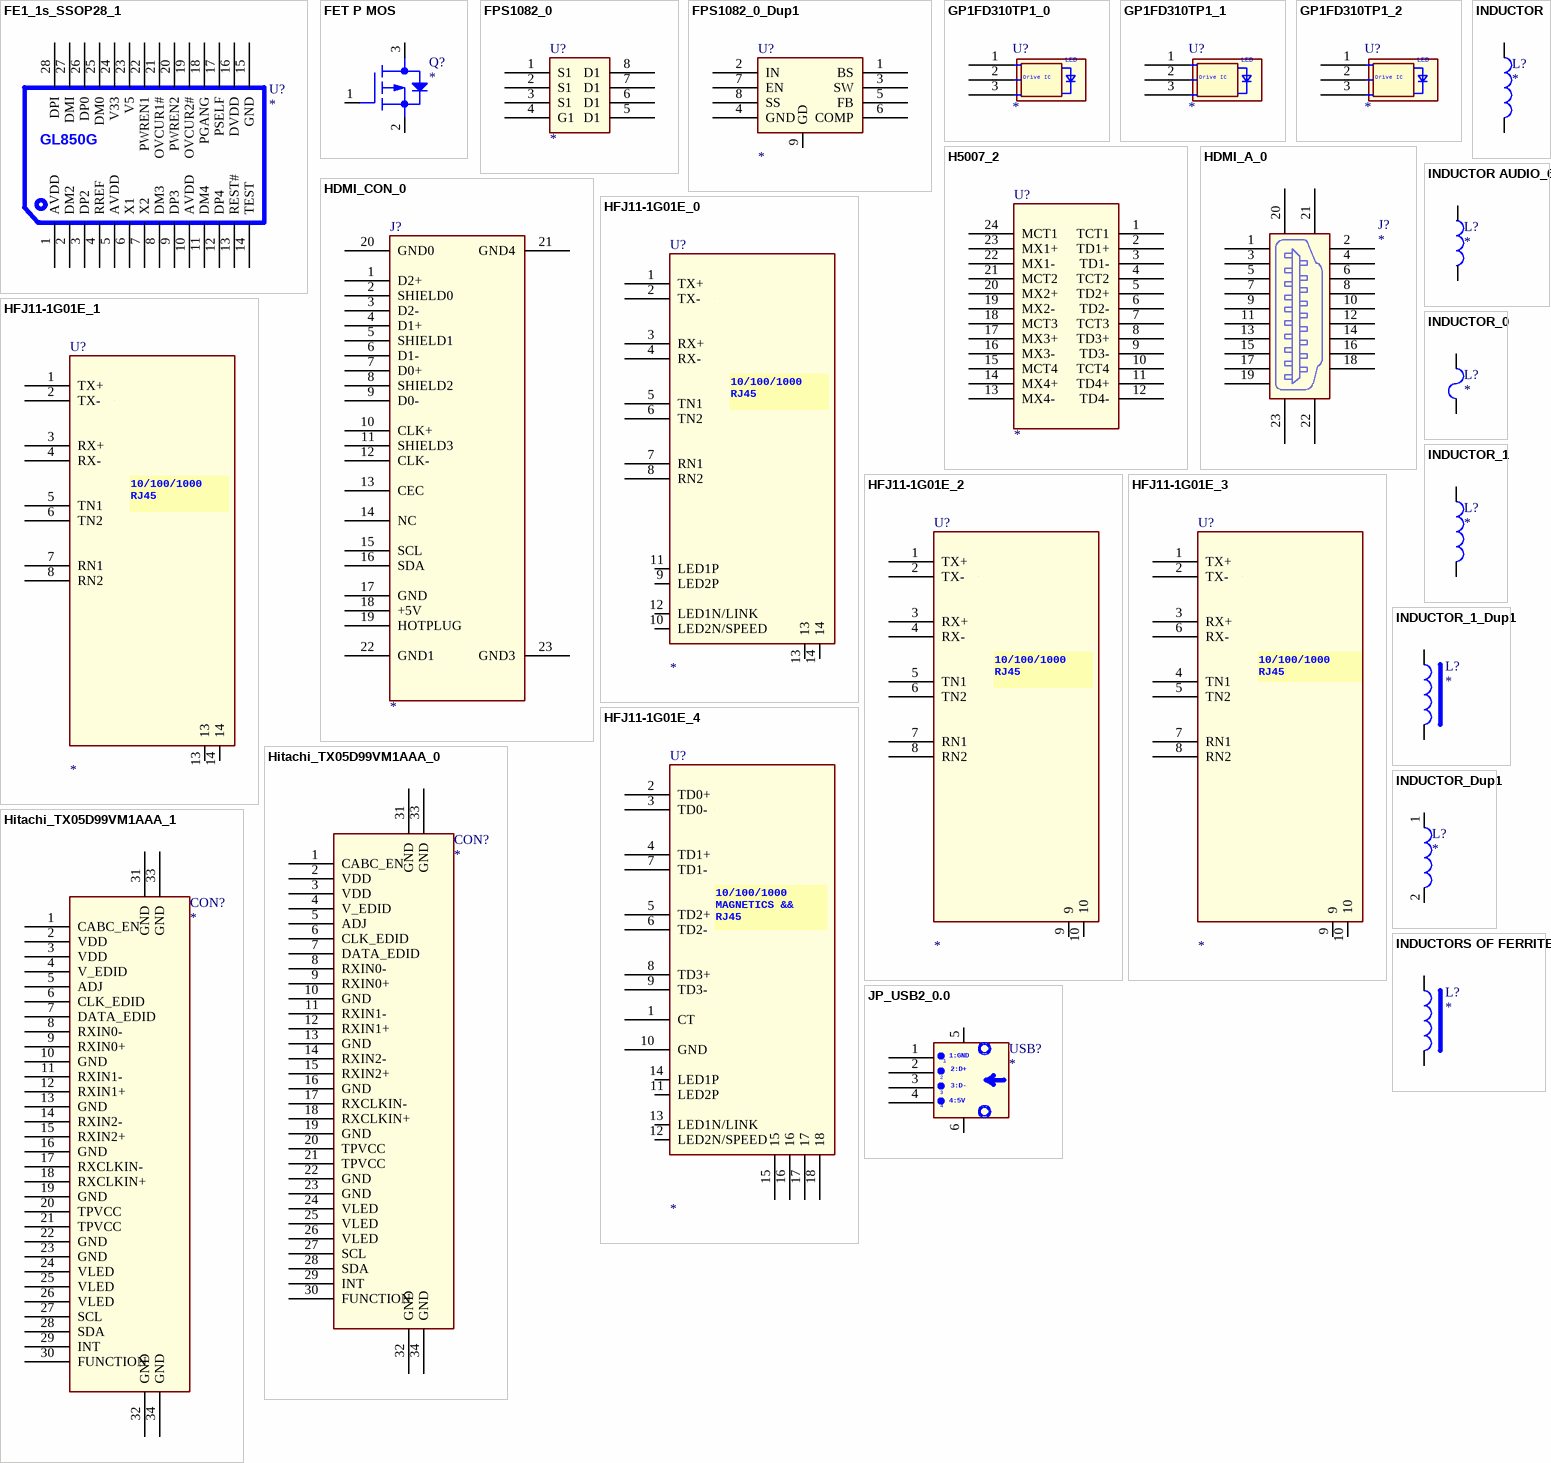
[diagram p10: symbols FE1_1s_SSOP28_1 to JP_USB2_0.0]

## FE1_1s_SSOP28_1
designator U?
pins: 1 AVDD (power), 2 DM2, 3 DP2, 4 RREF, 5 AVDD (power), 6 X1, 7 X2, 8 DM3, 9 DP3, 10 AVDD (power), 11 DM4, 12 DP4, 13 REST#, 14 TEST, 15 GND, 16 DVDD, 17 PSELF, 18 PGANG, 19 OVCUR2#, 20 PWREN2, 21 OVCUR1#, 22 PWREN1, 23 V5, 24 V33, 25 DM0, 26 DP0, 27 DMI, 28 DPI
text: GL850G

## FET P MOS
designator Q?
pins: 1 GATE, 2 SOURCE, 3 DRAIN

## FPS1082_0
designator U?
footprint SO-8
pins: 1 S1 (power), 2 S1 (power), 3 S1 (power), 4 G1 (power), 5 D1 (power), 6 D1 (power), 7 D1 (power), 8 D1 (power)

## FPS1082_0_Dup1
designator U?
footprint SO-8
pins: 1 BS, 2 IN, 3 SW, 4 GND, 5 FB, 6 COMP, 7 EN, 8 SS, 9 GD

## GP1FD310TP1_0
designator U?
pins: 1 GND, 2 Vcc, 3 VIN
text: LED; Drive IC

## GP1FD310TP1_1
designator U?
pins: 1 GND, 2 Vcc, 3 VIN
text: LED; Drive IC

## GP1FD310TP1_2
designator U?
pins: 1 GND, 2 Vcc, 3 VIN
text: LED; Drive IC

## H5007_2
designator U?
pins: 1 TCT1, 2 TD1+, 3 TD1-, 4 TCT2, 5 TD2+, 6 TD2-, 7 TCT3, 8 TD3+, 9 TD3-, 10 TCT4, 11 TD4+, 12 TD4-, 13 MX4-, 14 MX4+, 15 MCT4, 16 MX3-, 17 MX3+, 18 MCT3, 19 MX2-, 20 MX2+, 21 MCT2, 22 MX1-, 23 MX1+, 24 MCT1

## HDMI_A_0
designator J?
pins: 1 $PIN0, 2, 3, 4, 5, 6, 7, 8, 9, 10, 11, 12, 13, 14, 15, 16, 17, 18, 19, 20, 21, 22, 23

## HDMI_CON_0
designator J?
footprint HDMI
pins: 1 D2+, 2 SHIELD0, 3 D2-, 4 D1+, 5 SHIELD1, 6 D1-, 7 D0+, 8 SHIELD2, 9 D0-, 10 CLK+, 11 SHIELD3, 12 CLK-, 13 CEC, 14 NC, 15 SCL, 16 SDA, 17 GND, 18 +5V, 19 HOTPLUG, 20 GND0, 21 GND4, 22 GND1, 23 GND3

## HFJ11-1G01E_0
designator U?
pins: 1 TX+, 2 TX-, 3 RX+, 4 RX-, 5 TN1, 6 TN2, 7 RN1, 8 RN2, 9 LED2P, 10 LED2N/SPEED, 11 LED1P, 12 LED1N/LINK, 13, 14
text: 10/100/1000 / RJ45

## HFJ11-1G01E_1
designator U?
pins: 1 TX+, 2 TX-, 3 RX+, 4 RX-, 5 TN1, 6 TN2, 7 RN1, 8 RN2, 13, 14
text: 10/100/1000 / RJ45

## HFJ11-1G01E_2
designator U?
pins: 1 TX+, 2 TX-, 3 RX+, 4 RX-, 5 TN1, 6 TN2, 7 RN1, 8 RN2, 9, 10
text: 10/100/1000 / RJ45

## HFJ11-1G01E_3
designator U?
pins: 1 TX+, 2 TX-, 3 RX+, 4 TN1, 5 TN2, 6 RX-, 7 RN1, 8 RN2, 9, 10
text: 10/100/1000 / RJ45

## HFJ11-1G01E_4
designator U?
pins: 1 CT, 2 TD0+, 3 TD0-, 4 TD1+, 5 TD2+, 6 TD2-, 7 TD1-, 8 TD3+, 9 TD3-, 10 GND, 11 LED2P, 12 LED2N/SPEED, 13 LED1N/LINK, 14 LED1P, 15, 16, 17, 18
text: 10/100/1000 / MAGNETICS && / RJ45

## Hitachi_TX05D99VM1AAA_0
designator CON?
pins: 1 CABC_EN, 2 VDD, 3 VDD, 4 V_EDID, 5 ADJ, 6 CLK_EDID, 7 DATA_EDID, 8 RXIN0-, 9 RXIN0+, 10 GND, 11 RXIN1-, 12 RXIN1+, 13 GND, 14 RXIN2-, 15 RXIN2+, 16 GND, 17 RXCLKIN-, 18 RXCLKIN+, 19 GND, 20 TPVCC, 21 TPVCC, 22 GND, 23 GND, 24 VLED, 25 VLED, 26 VLED, 27 SCL, 28 SDA, 29 INT, 30 FUNCTION, 31 GND, 32 GND, 33 GND, 34 GND

## Hitachi_TX05D99VM1AAA_1
designator CON?
pins: 1 CABC_EN, 2 VDD, 3 VDD, 4 V_EDID, 5 ADJ, 6 CLK_EDID, 7 DATA_EDID, 8 RXIN0-, 9 RXIN0+, 10 GND, 11 RXIN1-, 12 RXIN1+, 13 GND, 14 RXIN2-, 15 RXIN2+, 16 GND, 17 RXCLKIN-, 18 RXCLKIN+, 19 GND, 20 TPVCC, 21 TPVCC, 22 GND, 23 GND, 24 VLED, 25 VLED, 26 VLED, 27 SCL, 28 SDA, 29 INT, 30 FUNCTION, 31 GND, 32 GND, 33 GND, 34 GND

## INDUCTOR
designator L?
pins: 1, 2

## INDUCTOR AUDIO_6
designator L?
pins: 1, 2

## INDUCTOR_0
designator L?
pins: 1, 2

## INDUCTOR_1
designator L?
pins: 1, 2

## INDUCTOR_1_Dup1
designator L?
pins: 1, 2

## INDUCTOR_Dup1
designator L?
pins: 1, 2

## INDUCTORS OF FERRITE
designator L?
pins: 1, 2

## JP_USB2_0.0
designator USB?
footprint USB20
pins: 1, 2, 3, 4, 5, 6
text: 1:GND; 2:D+; 3:D-; 4:5V

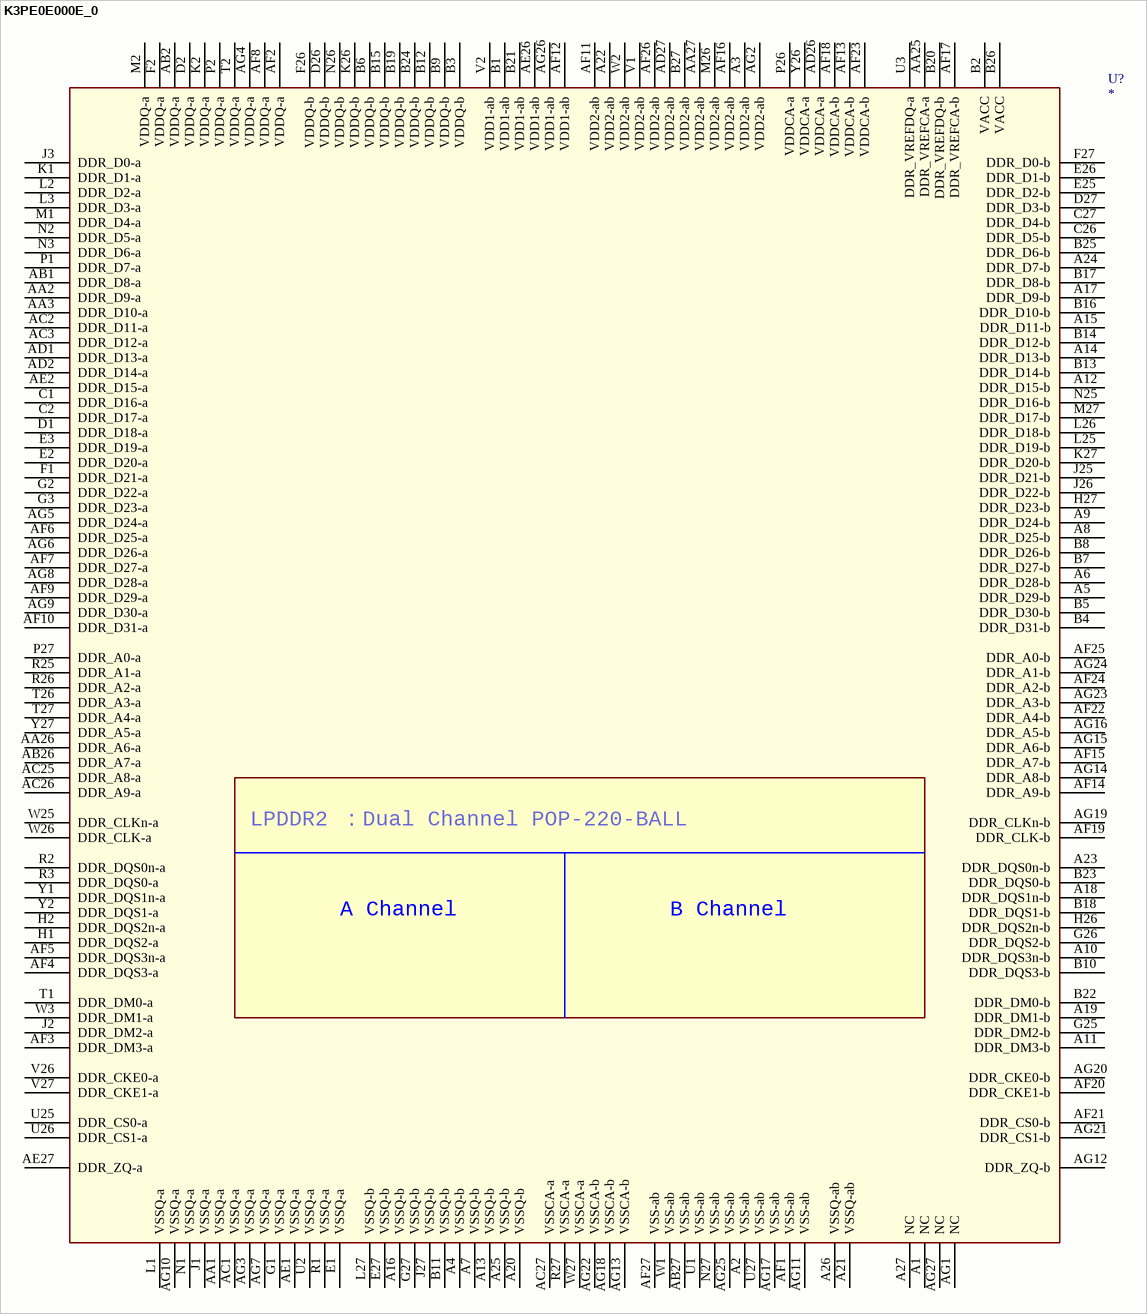
[diagram p11: symbol K3PE0E000E_0]

## K3PE0E000E_0
designator U?
footprint FBGA220-14X14
pins: A1 NC, A2 VSS-ab, A3 VDD2-ab, A4 VSSQ-b, A5 DDR_D29-b, A6 DDR_D28-b, A7 VSSQ-b, A8 DDR_D25-b, A9 DDR_D24-b, A10 DDR_DQS3n-b, A11 DDR_DM3-b, A12 DDR_D15-b, A13 VSSQ-b, A14 DDR_D13-b, A15 DDR_D11-b, A16 VSSQ-b, A17 DDR_D9-b, A18 DDR_DQS1n-b, A19 DDR_DM1-b, A20 VSSQ-b, A21 VSSQ-ab, A22 VDD2-ab, A23 DDR_DQS0n-b, A24 DDR_D7-b, A25 VSSQ-b, A26 VSSQ-ab, A27 NC, AA1 VSSQ-a, AA2 DDR_D9-a, AA3 DDR_D10-a, AA25 DDR_VREFCA-a, AA26 DDR_A6-a, AA27 VDD2-ab, AB1 DDR_D8-a, AB2 VDDQ-a, AB26 DDR_A7-a, AB27 VSS-ab, AC1 VSSQ-a, AC2 DDR_D11-a, AC3 DDR_D12-a, AC25 DDR_A8-a, AC26 DDR_A9-a, AC27 VSSCA-a, AD1 DDR_D13-a, AD2 DDR_D14-a, AD26 VDDCA-a, AD27 VDD2-ab, AE1 VSSQ-a, AE2 DDR_D15-a, AE26 VDD1-ab, AE27 DDR_ZQ-a, AF1 VSS-ab, AF2 VDDQ-a, AF3 DDR_DM3-a, AF4 DDR_DQS3-a, AF5 DDR_DQS3n-a, AF6 DDR_D25-a, AF7 DDR_D27-a, AF8 VDDQ-a, AF9 DDR_D29-a, AF10 DDR_D31-a, AF11 VDD2-ab, AF12 VDD1-ab, AF13 VDDCA-b, AF14 DDR_A9-b, AF15 DDR_A7-b, AF16 VDD2-ab, AF17 DDR_VREFCA-b, AF18 VDDCA-b, AF19 DDR_CLK-b, AF20 DDR_CKE1-b, AF21 DDR_CS0-b, AF22 DDR_A4-b, AF23 VDDCA-b, AF24 DDR_A2-b, AF25 DDR_A0-b, AF26 VDD2-ab, AF27 VSS-ab, AG1 NC, AG2 VDD2-ab, AG3 VSSQ-a, AG4 VDDQ-a, AG5 DDR_D24-a, AG6 DDR_D26-a, AG7 VSSQ-a, AG8 DDR_D28-a, AG9 DDR_D30-a, AG10 VSSQ-a, AG11 VSS-ab, AG12 DDR_ZQ-b, AG13 VSSCA-b, AG14 DDR_A8-b, AG15 DDR_A6-b, AG16 DDR_A5-b, AG17 VSS-ab, AG18 VSSCA-b, AG19 DDR_CLKn-b, AG20 DDR_CKE0-b, AG21 DDR_CS1-b, AG22 VSSCA-b, AG23 DDR_A3-b, AG24 DDR_A1-b, AG25 VSS-ab, AG26 VDD1-ab, AG27 NC, B1 VDD1-ab, B2 VACC, B3 VDDQ-b, B4 DDR_D31-b, B5 DDR_D30-b, B6 VDDQ-b, B7 DDR_D27-b, B8 DDR_D26-b, B9 VDDQ-b, B10 DDR_DQS3-b, B11 VSSQ-b, B12 VDDQ-b, B13 DDR_D14-b, B14 DDR_D12-b, B15 VDDQ-b, B16 DDR_D10-b, B17 DDR_D8-b, B18 DDR_DQS1-b, B19 VDDQ-b, B20 DDR_VREFDQ-b, B21 VDD1-ab, B22 DDR_DM0-b, B23 DDR_DQS0-b, B24 VDDQ-b, B25 DDR_D6-b, B26 VACC, B27 VDD2-ab, C1 DDR_D16-a, C2 DDR_D17-a, C26 DDR_D5-b, C27 DDR_D4-b, D1 DDR_D18-a, D2 VDDQ-a, D26 VDDQ-b, D27 DDR_D3-b, E1 VSSQ-a, E2 DDR_D20-a, E3 DDR_D19-a, E25 DDR_D2-b, E26 DDR_D1-b, E27 VSSQ-b, F1 DDR_D21-a, F2 VDDQ-a, F26 VDDQ-b, F27 DDR_D0-b, G1 VSSQ-a, G2 DDR_D22-a, G3 DDR_D23-a, G25 DDR_DM2-b, G26 DDR_DQS2-b, G27 VSSQ-b, H1 DDR_DQS2-a, H2 DDR_DQS2n-a, H26 DDR_DQS2n-b, H27 DDR_D23-b, J1 VSSQ-a, J2 DDR_DM2-a, J3 DDR_D0-a, J25 DDR_D21-b, J26 DDR_D22-b, J27 VSSQ-b, K1 DDR_D1-a, K2 VDDQ-a, K26 VDDQ-b, K27 DDR_D20-b, L1 VSSQ-a, L2 DDR_D2-a, L3 DDR_D3-a, L25 DDR_D19-b, L26 DDR_D18-b, L27 VSSQ-b, M1 DDR_D4-a, M2 VDDQ-a, M26 VDD2-ab, M27 DDR_D17-b, N1 VSSQ-a, N2 DDR_D5-a, N3 DDR_D6-a, N25 DDR_D16-b, N26 VDDQ-b, N27 VSS-ab, P1 DDR_D7-a, P2 VDDQ-a, P26 VDDCA-a, P27 DDR_A0-a, R1 VSSQ-a, R2 DDR_DQS0n-a, R3 DDR_DQS0-a, R25 DDR_A1-a, R26 DDR_A2-a, R27 VSSCA-a, T1 DDR_DM0-a, T2 VDDQ-a, T26 DDR_A3-a, T27 DDR_A4-a, U1 VSS-ab, U2 VSSQ-a, U3 DDR_VREFDQ-a, U25 DDR_CS0-a, U26 DDR_CS1-a, U27 VSS-ab, V1 VDD2-ab, V2 VDD1-ab, V26 DDR_CKE0-a, V27 DDR_CKE1-a, W1 VSS-ab, W2 VDD2-ab, W3 DDR_DM1-a, W25 DDR_CLKn-a, W26 DDR_CLK-a, W27 VSSCA-a, Y1 DDR_DQS1n-a, Y2 DDR_DQS1-a, Y26 VDDCA-a, Y27 DDR_A5-a
text: LPDDR2 ：Dual Channel POP-220-BALL; A Channel; B Channel

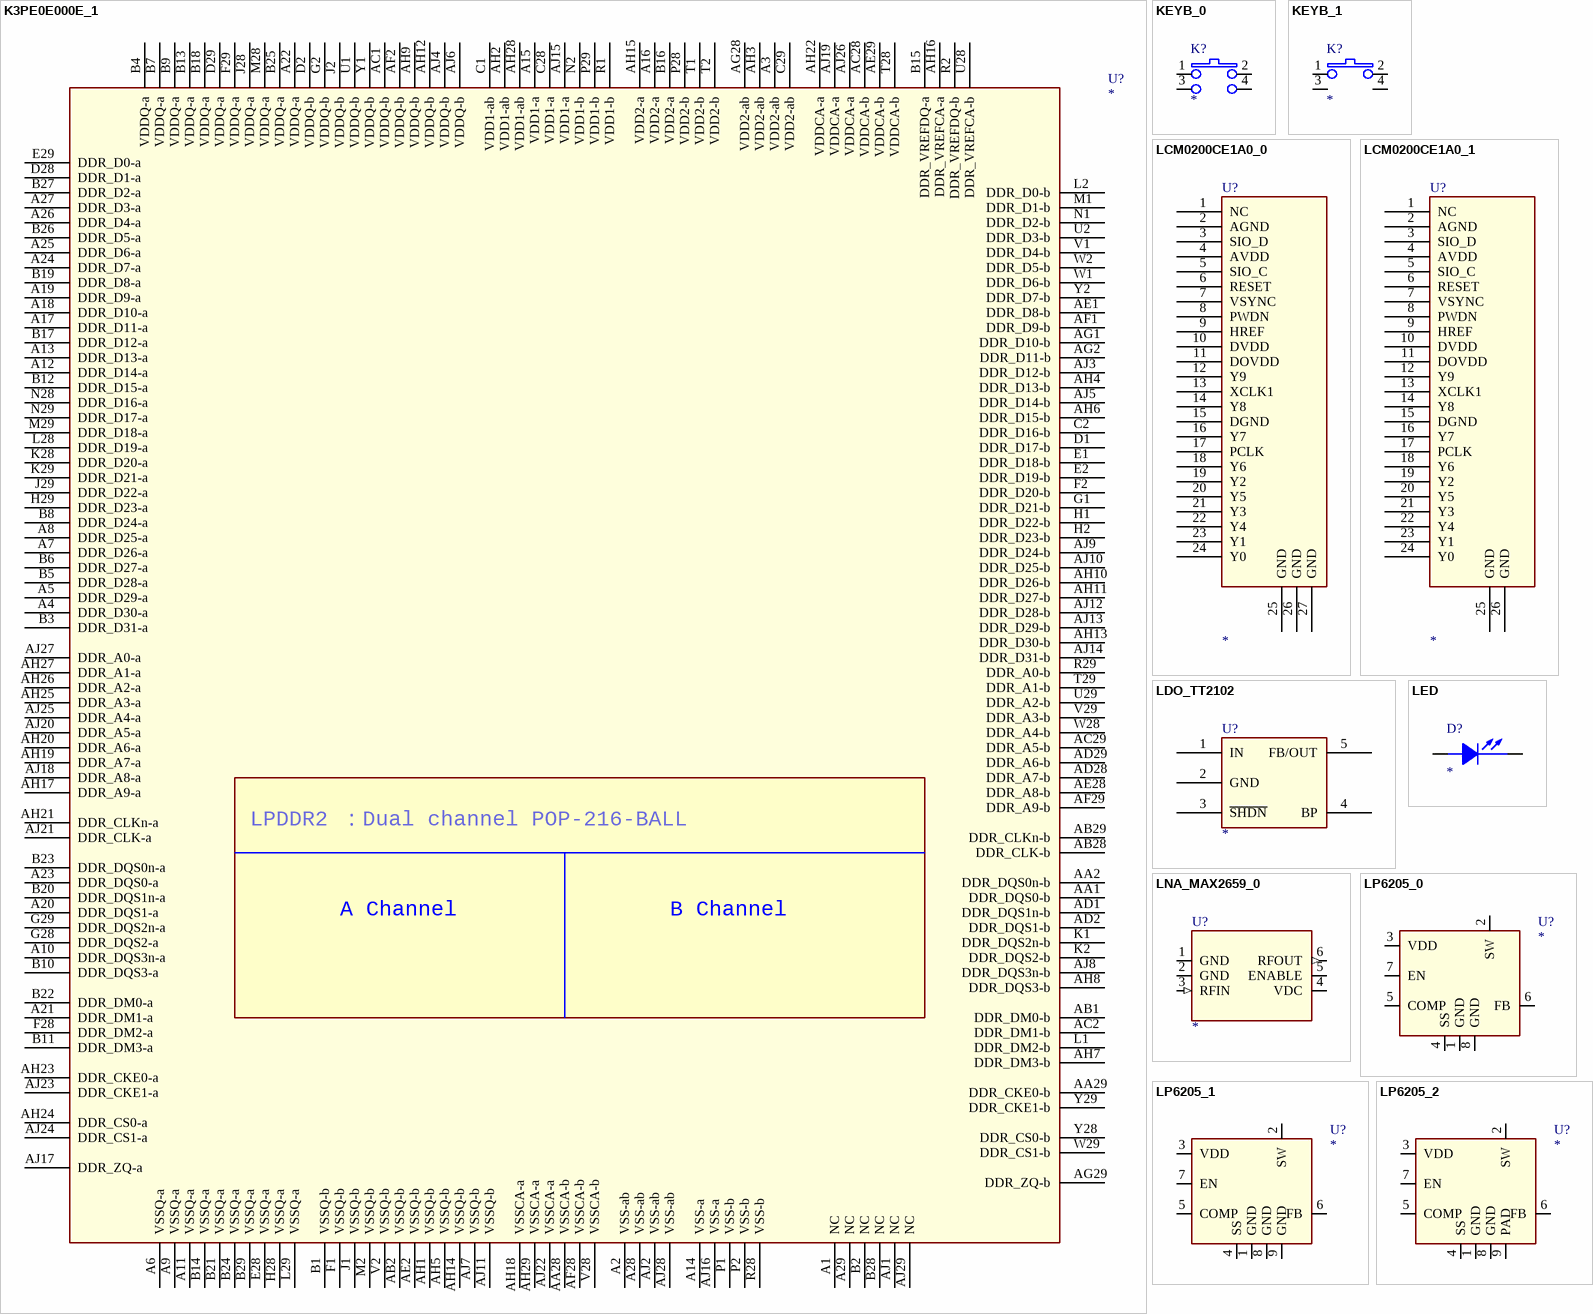
[diagram p12: symbols K3PE0E000E_1 to LP6205_2]

## K3PE0E000E_1
designator U?
footprint FBGA220-14X14
pins: A1 NC, A2 VSS-ab, A3 VDD2-ab, A4 DDR_D30-a, A5 DDR_D29-a, A6 VSSQ-a, A7 DDR_D26-a, A8 DDR_D25-a, A9 VSSQ-a, A10 DDR_DQS3n-a, A11 VSSQ-a, A12 DDR_D14-a, A13 DDR_D13-a, A14 VSS-a, A15 VDD1-a, A16 VDD2-a, A17 DDR_D11-a, A18 DDR_D10-a, A19 DDR_D9-a, A20 DDR_DQS1-a, A21 DDR_DM1-a, A22 VDDQ-a, A23 DDR_DQS0-a, A24 DDR_D7-a, A25 DDR_D6-a, A26 DDR_D4-a, A27 DDR_D3-a, A28 VSS-ab, A29 NC, AA1 DDR_DQS0-b, AA2 DDR_DQS0n-b, AA28 VSSCA-b, AA29 DDR_CKE0-b, AB1 DDR_DM0-b, AB2 VSSQ-b, AB28 DDR_CLK-b, AB29 DDR_CLKn-b, AC1 VDDQ-b, AC2 DDR_DM1-b, AC28 VDDCA-b, AC29 DDR_A5-b, AD1 DDR_DQS1n-b, AD2 DDR_DQS1-b, AD28 DDR_A7-b, AD29 DDR_A6-b, AE1 DDR_D8-b, AE2 VSSQ-b, AE28 DDR_A8-b, AE29 VDDCA-b, AF1 DDR_D9-b, AF2 VDDQ-b, AF28 VSSCA-b, AF29 DDR_A9-b, AG1 DDR_D10-b, AG2 DDR_D11-b, AG28 VDD2-ab, AG29 DDR_ZQ-b, AH1 VSSQ-b, AH2 VDD1-ab, AH3 VDD2-ab, AH4 DDR_D13-b, AH5 VSSQ-b, AH6 DDR_D15-b, AH7 DDR_DM3-b, AH8 DDR_DQS3-b, AH9 VDDQ-b, AH10 DDR_D26-b, AH11 DDR_D27-b, AH12 VDDQ-b, AH13 DDR_D30-b, AH14 VSSQ-b, AH15 VDD2-a, AH16 DDR_VREFCA-a, AH17 DDR_A9-a, AH18 VSSCA-a, AH19 DDR_A7-a, AH20 DDR_A6-a, AH21 DDR_CLKn-a, AH22 VDDCA-a, AH23 DDR_CKE0-a, AH24 DDR_CS0-a, AH25 DDR_A3-a, AH26 DDR_A2-a, AH27 DDR_A1-a, AH28 VDD1-ab, AH29 VSSCA-a, AJ1 NC, AJ2 VSS-ab, AJ3 DDR_D12-b, AJ4 VDDQ-b, AJ5 DDR_D14-b, AJ6 VDDQ-b, AJ7 VSSQ-b, AJ8 DDR_DQS3n-b, AJ9 DDR_D24-b, AJ10 DDR_D25-b, AJ11 VSSQ-b, AJ12 DDR_D28-b, AJ13 DDR_D29-b, AJ14 DDR_D31-b, AJ15 VDD1-a, AJ16 VSS-a, AJ17 DDR_ZQ-a, AJ18 DDR_A8-a, AJ19 VDDCA-a, AJ20 DDR_A5-a, AJ21 DDR_CLK-a, AJ22 VSSCA-a, AJ23 DDR_CKE1-a, AJ24 DDR_CS1-a, AJ25 DDR_A4-a, AJ26 VDDCA-a, AJ27 DDR_A0-a, AJ28 VSS-ab, AJ29 NC, B1 VSSQ-b, B2 NC, B3 DDR_D31-a, B4 VDDQ-a, B5 DDR_D28-a, B6 DDR_D27-a, B7 VDDQ-a, B8 DDR_D24-a, B9 VDDQ-a, B10 DDR_DQS3-a, B11 DDR_DM3-a, B12 DDR_D15-a, B13 VDDQ-a, B14 VSSQ-a, B15 DDR_VREFDQ-a, B16 VDD2-a, B17 DDR_D12-a, B18 VDDQ-a, B19 DDR_D8-a, B20 DDR_DQS1n-a, B21 VSSQ-a, B22 DDR_DM0-a, B23 DDR_DQS0n-a, B24 VSSQ-a, B25 VDDQ-a, B26 DDR_D5-a, B27 DDR_D2-a, B28 NC, B29 VSSQ-a, C1 VDD1-ab, C2 DDR_D16-b, C28 VDD1-a, C29 VDD2-ab, D1 DDR_D17-b, D2 VDDQ-b, D28 DDR_D1-a, D29 VDDQ-a, E1 DDR_D18-b, E2 DDR_D19-b, E28 VSSQ-a, E29 DDR_D0-a, F1 VSSQ-b, F2 DDR_D20-b, F28 DDR_DM2-a, F29 VDDQ-a, G1 DDR_D21-b, G2 VDDQ-b, G28 DDR_DQS2-a, G29 DDR_DQS2n-a, H1 DDR_D22-b, H2 DDR_D23-b, H28 VSSQ-a, H29 DDR_D23-a, J1 VSSQ-b, J2 VDDQ-b, J28 VDDQ-a, J29 DDR_D22-a, K1 DDR_DQS2n-b, K2 DDR_DQS2-b, K28 DDR_D20-a, K29 DDR_D21-a, L1 DDR_DM2-b, L2 DDR_D0-b, L28 DDR_D19-a, L29 VSSQ-a, M1 DDR_D1-b, M2 VSSQ-b, M28 VDDQ-a, M29 DDR_D18-a, N1 DDR_D2-b, N2 VDD1-b, N28 DDR_D16-a, N29 DDR_D17-a, P1 VSS-b, P2 VSS-b, P28 VDD2-b, P29 VDD1-b, R1 VDD1-b, R2 DDR_VREFDQ-b, R28 VSS-b, R29 DDR_A0-b, T1 VDD2-b, T2 VDD2-b, T28 VDDCA-b, T29 DDR_A1-b, U1 VDDQ-b, U2 DDR_D3-b, U28 DDR_VREFCA-b, U29 DDR_A2-b, V1 DDR_D4-b, V2 VSSQ-b, V28 VSSCA-b, V29 DDR_A3-b, W1 DDR_D6-b, W2 DDR_D5-b, W28 DDR_A4-b, W29 DDR_CS1-b, Y1 VDDQ-b, Y2 DDR_D7-b, Y28 DDR_CS0-b, Y29 DDR_CKE1-b
text: LPDDR2 ：Dual channel POP-216-BALL; A Channel; B Channel

## KEYB_0
designator K?
footprint KEYB
pins: 1, 2, 3, 4

## KEYB_1
designator K?
footprint KEYB
pins: 1, 2, 3, 4

## LCM0200CE1A0_0
designator U?
pins: 1 NC, 2 AGND, 3 SIO_D, 4 AVDD, 5 SIO_C, 6 RESET, 7 VSYNC, 8 PWDN, 9 HREF, 10 DVDD, 11 DOVDD, 12 Y9, 13 XCLK1, 14 Y8, 15 DGND, 16 Y7, 17 PCLK, 18 Y6, 19 Y2, 20 Y5, 21 Y3, 22 Y4, 23 Y1, 24 Y0, 25 GND, 26 GND, 27 GND

## LCM0200CE1A0_1
designator U?
pins: 1 NC, 2 AGND, 3 SIO_D, 4 AVDD, 5 SIO_C, 6 RESET, 7 VSYNC, 8 PWDN, 9 HREF, 10 DVDD, 11 DOVDD, 12 Y9, 13 XCLK1, 14 Y8, 15 DGND, 16 Y7, 17 PCLK, 18 Y6, 19 Y2, 20 Y5, 21 Y3, 22 Y4, 23 Y1, 24 Y0, 25 GND, 26 GND

## LDO_TT2102
designator U?
pins: 1 IN, 2 GND, 3 ~{SHDN}, 4 BP, 5 FB/OUT

## LED
designator D?
pins: 1 ANODE, 2 CATHODE

## LNA_MAX2659_0
designator U?
footprint P-TSLP-7-1
pins: 1 GND (power), 2 GND, 3 RFIN (in), 4 VDC (power), 5 ENABLE, 6 RFOUT (out)

## LP6205_0
designator U?
pins: 1 GND, 2 SW, 3 VDD, 4 SS, 5 COMP, 6 FB, 7 EN, 8 GND

## LP6205_1
designator U?
pins: 1 GND, 2 SW, 3 VDD, 4 SS, 5 COMP, 6 FB, 7 EN, 8 GND, 9 GND

## LP6205_2
designator U?
pins: 1 GND, 2 SW, 3 VDD, 4 SS, 5 COMP, 6 FB, 7 EN, 8 GND, 9 PAD

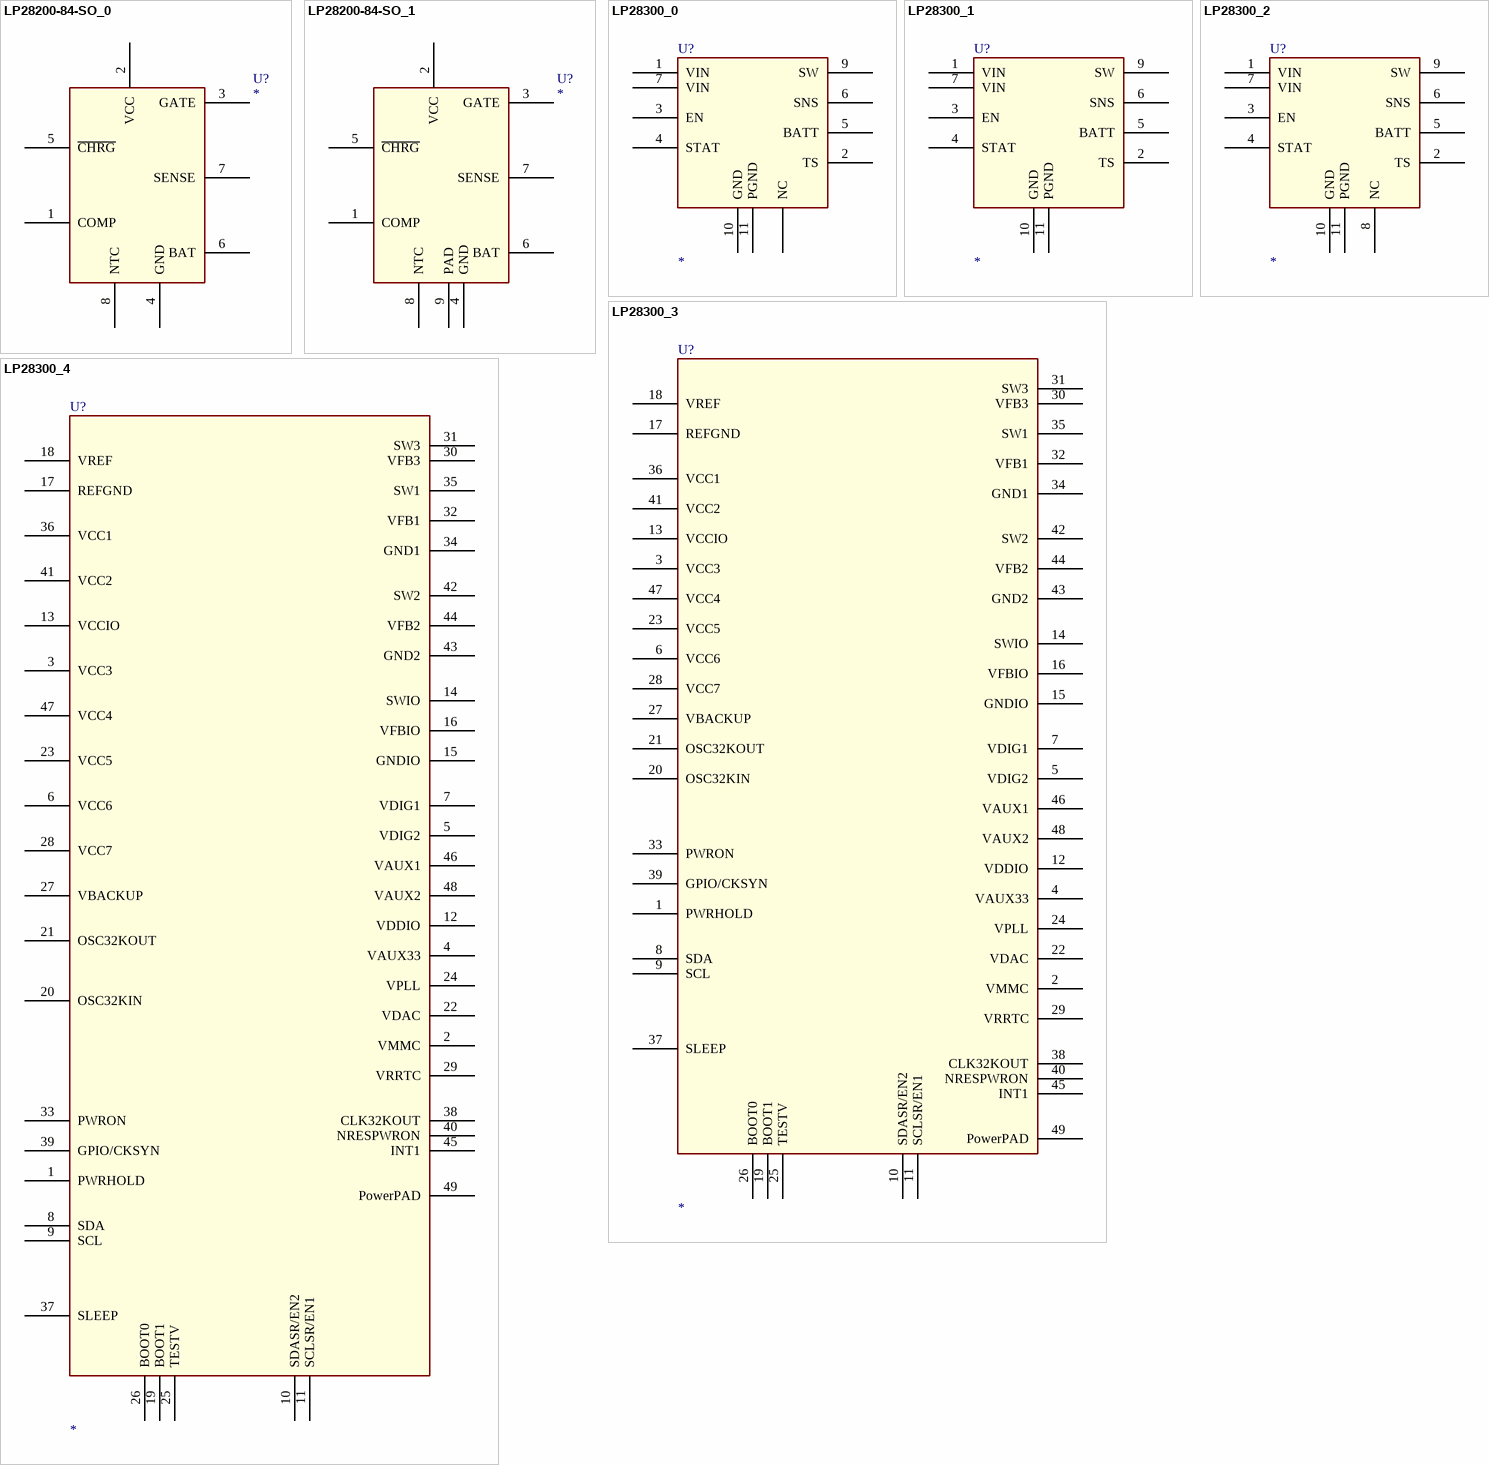
[diagram p13: symbols LP28200-84-SO_0 to LP28300_4]

## LP28200-84-SO_0
designator U?
footprint SOP8
pins: 1 COMP, 2 VCC, 3 GATE, 4 GND, 5 ~{CHRG}, 6 BAT, 7 SENSE, 8 NTC

## LP28200-84-SO_1
designator U?
footprint SOP8
pins: 1 COMP, 2 VCC, 3 GATE, 4 GND, 5 ~{CHRG}, 6 BAT, 7 SENSE, 8 NTC, 9 PAD

## LP28300_0
designator U?
footprint TDFN10
pins: 1 VIN, 2 TS, 3 EN, 4 STAT, 5 BATT, 6 SNS, 7 VIN, 9 SW, 10 GND, 11 PGND, NC

## LP28300_1
designator U?
footprint TDFN10
pins: 1 VIN, 2 TS, 3 EN, 4 STAT, 5 BATT, 6 SNS, 7 VIN, 9 SW, 10 GND, 11 PGND

## LP28300_2
designator U?
footprint TDFN10
pins: 1 VIN, 2 TS, 3 EN, 4 STAT, 5 BATT, 6 SNS, 7 VIN, 8 NC, 9 SW, 10 GND, 11 PGND